# Altium schematic symbol library kmilo17pet-dsPIC33F.SchLib: 775 symbols (part 23 of 44)
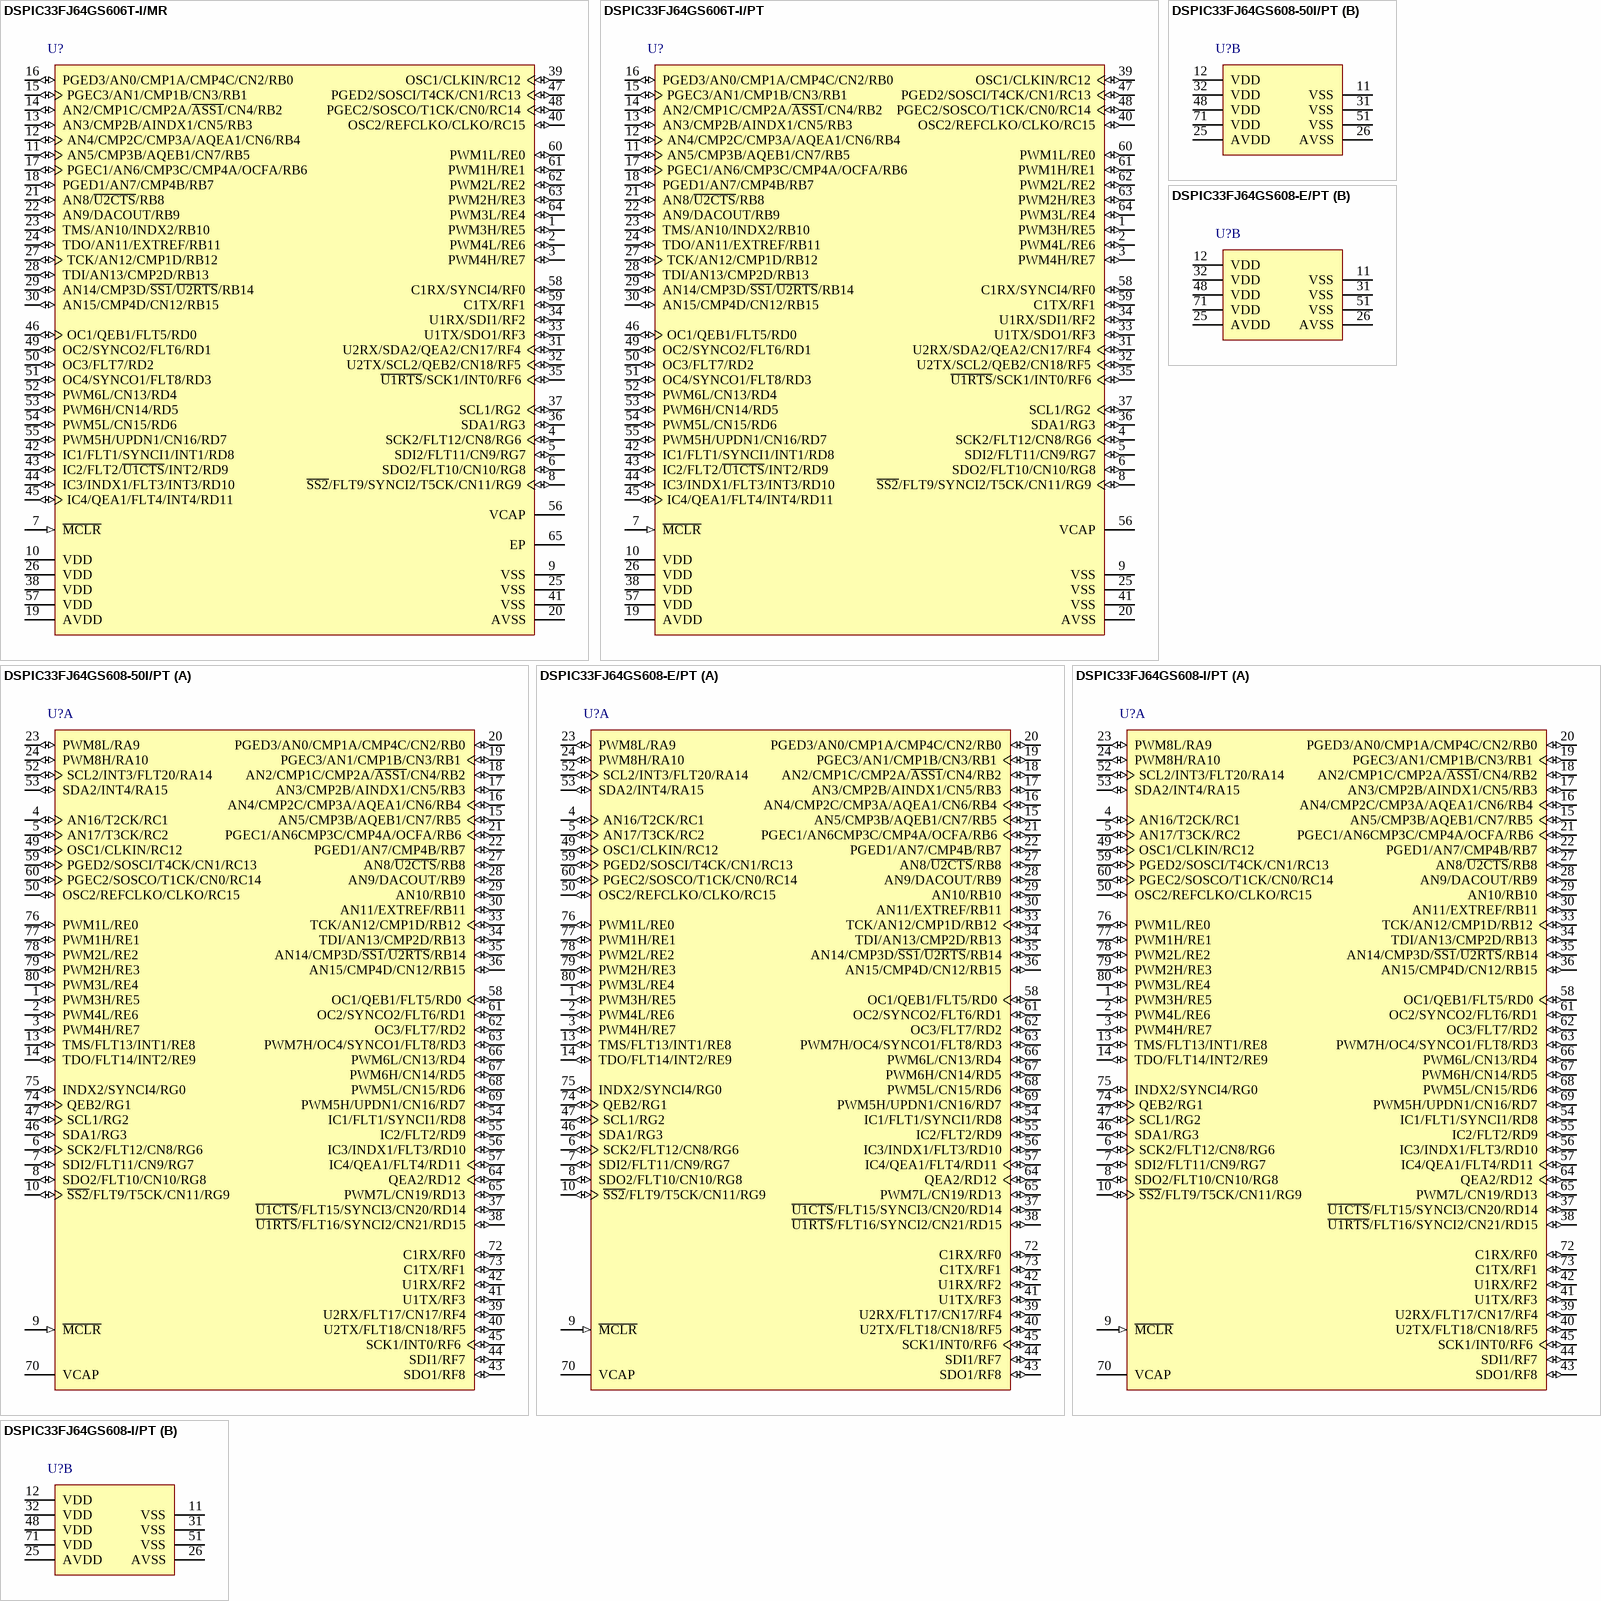
[diagram p180: symbols DSPIC33FJ64GS606T-I/MR to DSPIC33FJ64GS608-I/PT]

## DSPIC33FJ64GS606T-I/MR
designator U?
16-Bit Digital Signal Controller with High-Speed PWM, ADC and Comparators, 50 MIPS, 58 I/O, GPIO, -40 to 85 degC, 64-pin QFN (MR64), Tape and Reel; Manufacturer: Microchip; PartNumber: DSPIC33FJ64GS606T-I/MR; DatasheetVersion: Rev. E; PackageVersion: C04-149C; PackageReference: QFN-MR64; PackageDescription: 64-Lead Plastic Quad Flat, 9 x 9 mm Body, 0.5 mm Pitch; Supplier 1: Digi-Key; Supplier Part Number 1: DSPIC33FJ64GS606T-I/MR-ND; Supplier 2: Mouser; Supplier Part Number 2: 579-33FJ64GS606TI/MR; Mounting Technology: Surface Mount; ComponentLink1Description: Manufacturer URL; ComponentLink1URL: http://www.microchip.com; ComponentLink2Description: Datasheet; ComponentLink2URL: http://ww1.microchip.com/downloads/en/DeviceDoc/70591e.pdf; ComponentLink3Description: Package Specification; ComponentLink3URL: http://www.microchip.com/stellent/groups/techpub_sg/documents/packagingspec/en012702.pdf; ComponentLink4Description: Product URL; ComponentLink4URL: http://www.microchip.com/dsPIC33FJ64GS606
footprint MCHP-QFN-MR64-7275X7275TP_N (QFN, 64-Leads, Body 9x9mm, Pitch 0.5mm, Thermal Pad 7.275x7.275mm, IPC Medium Density)
footprint MCHP-QFN-MR64-7275X7275TP_L (QFN, 64-Leads, Body 9x9mm, Pitch 0.5mm, Thermal Pad 7.275x7.275mm, IPC High Density)
footprint MCHP-QFN-MR64-7275X7275TP_M (QFN, 64-Leads, Body 9x9mm, Pitch 0.5mm, Thermal Pad 7.275x7.275mm, IPC Low Density)
pins: 1 PWM3H/RE5 (io), 2 PWM4L/RE6 (io), 3 PWM4H/RE7 (io), 4 SCK2/FLT12/CN8/RG6 (io), 5 SDI2/FLT11/CN9/RG7 (io), 6 SDO2/FLT10/CN10/RG8 (io), 7 ~{MCLR} (in) "Master Clear (Reset) input. This pin is an active-low Reset to the device.", 8 ~{SS2}/FLT9/SYNCI2/T5CK/CN11/RG9 (io), 9 VSS (power) "Ground reference for logic and I/O pins.", 10 VDD (power) "Positive supply for peripheral logic and I/O pins.", 11 AN5/CMP3B/AQEB1/CN7/RB5 (io), 12 AN4/CMP2C/CMP3A/AQEA1/CN6/RB4 (io), 13 AN3/CMP2B/AINDX1/CN5/RB3 (io), 14 AN2/CMP1C/CMP2A/~{ASS1}/CN4/RB2 (io), 15 PGEC3/AN1/CMP1B/CN3/RB1 (io), 16 PGED3/AN0/CMP1A/CMP4C/CN2/RB0 (io), 17 PGEC1/AN6/CMP3C/CMP4A/OCFA/RB6 (io), 18 PGED1/AN7/CMP4B/RB7 (io), 19 AVDD (power) "Positive supply for analog modules. This pin must be connected at all times.", 20 AVSS (power) "Ground reference for analog modules.", 21 AN8/~{U2CTS}/RB8 (io), 22 AN9/DACOUT/RB9 (io), 23 TMS/AN10/INDX2/RB10 (io), 24 TDO/AN11/EXTREF/RB11 (io), 25 VSS (power) "Ground reference for logic and I/O pins.", 26 VDD (power) "Positive supply for peripheral logic and I/O pins.", 27 TCK/AN12/CMP1D/RB12 (io), 28 TDI/AN13/CMP2D/RB13 (io), 29 AN14/CMP3D/~{SS1}/~{U2RTS}/RB14 (io), 30 AN15/CMP4D/CN12/RB15 (io), 31 U2RX/SDA2/QEA2/CN17/RF4 (io), 32 U2TX/SCL2/QEB2/CN18/RF5 (io), 33 U1TX/SDO1/RF3 (io), 34 U1RX/SDI1/RF2 (io), 35 ~{U1RTS}/SCK1/INT0/RF6 (io), 36 SDA1/RG3 (io), 37 SCL1/RG2 (io), 38 VDD (power) "Positive supply for peripheral logic and I/O pins.", 39 OSC1/CLKIN/RC12 (io), 40 OSC2/REFCLKO/CLKO/RC15 (io), 41 VSS (power) "Ground reference for logic and I/O pins.", 42 IC1/FLT1/SYNCI1/INT1/RD8 (io), 43 IC2/FLT2/~{U1CTS}/INT2/RD9 (io), 44 IC3/INDX1/FLT3/INT3/RD10 (io), 45 IC4/QEA1/FLT4/INT4/RD11 (io), 46 OC1/QEB1/FLT5/RD0 (io), 47 PGED2/SOSCI/T4CK/CN1/RC13 (io), 48 PGEC2/SOSCO/T1CK/CN0/RC14 (io), 49 OC2/SYNCO2/FLT6/RD1 (io), 50 OC3/FLT7/RD2 (io), 51 OC4/SYNCO1/FLT8/RD3 (io), 52 PWM6L/CN13/RD4 (io), 53 PWM6H/CN14/RD5 (io), 54 PWM5L/CN15/RD6 (io), 55 PWM5H/UPDN1/CN16/RD7 (io), 56 VCAP "CPU logic filter capacitor connection.", 57 VDD (power) "Positive supply for peripheral logic and I/O pins.", 58 C1RX/SYNCI4/RF0 (io), 59 C1TX/RF1 (io), 60 PWM1L/RE0 (io), 61 PWM1H/RE1 (io), 62 PWM2L/RE2 (io), 63 PWM2H/RE3 (io), 64 PWM3L/RE4 (io), 65 EP (power)

## DSPIC33FJ64GS606T-I/PT
designator U?
16-Bit Digital Signal Controller with High-Speed PWM, ADC and Comparators, 50 MIPS, 58 I/O, GPIO, -40 to 85 degC, 64-pin TQFP (PT64), Tape and Reel; Manufacturer: Microchip; PartNumber: DSPIC33FJ64GS606T-I/PT; DatasheetVersion: Rev. E; PackageVersion: C04-085B; PackageReference: TQFP-PT64; PackageDescription: 64-Lead Plastic Thin Quad FlatPack, 10 x 10 mm Body, 0.5 mm Pitch; Supplier 1: Digi-Key; Supplier Part Number 1: DSPIC33FJ64GS606T-I/PT-ND; Supplier 2: Mouser; Supplier Part Number 2: 579-33FJ64GS606TI/PT; Mounting Technology: Surface Mount; ComponentLink1Description: Manufacturer URL; ComponentLink1URL: http://www.microchip.com; ComponentLink2Description: Datasheet; ComponentLink2URL: http://ww1.microchip.com/downloads/en/DeviceDoc/70591e.pdf; ComponentLink3Description: Package Specification; ComponentLink3URL: http://www.microchip.com/stellent/groups/techpub_sg/documents/packagingspec/en012702.pdf; ComponentLink4Description: Product URL; ComponentLink4URL: http://www.microchip.com/dsPIC33FJ64GS606
footprint MCHP-TQFP-PT64_N (TQFP, 64-Leads, Body 10x10mm, Pitch 0.5mm, IPC Medium Density)
footprint MCHP-TQFP-PT64_L (TQFP, 64-Leads, Body 10x10mm, Pitch 0.5mm, IPC High Density)
footprint MCHP-TQFP-PT64_M (TQFP, 64-Leads, Body 10x10mm, Pitch 0.5mm, IPC Low Density)
pins: 1 PWM3H/RE5 (io), 2 PWM4L/RE6 (io), 3 PWM4H/RE7 (io), 4 SCK2/FLT12/CN8/RG6 (io), 5 SDI2/FLT11/CN9/RG7 (io), 6 SDO2/FLT10/CN10/RG8 (io), 7 ~{MCLR} (in) "Master Clear (Reset) input. This pin is an active-low Reset to the device.", 8 ~{SS2}/FLT9/SYNCI2/T5CK/CN11/RG9 (io), 9 VSS (power) "Ground reference for logic and I/O pins.", 10 VDD (power) "Positive supply for peripheral logic and I/O pins.", 11 AN5/CMP3B/AQEB1/CN7/RB5 (io), 12 AN4/CMP2C/CMP3A/AQEA1/CN6/RB4 (io), 13 AN3/CMP2B/AINDX1/CN5/RB3 (io), 14 AN2/CMP1C/CMP2A/~{ASS1}/CN4/RB2 (io), 15 PGEC3/AN1/CMP1B/CN3/RB1 (io), 16 PGED3/AN0/CMP1A/CMP4C/CN2/RB0 (io), 17 PGEC1/AN6/CMP3C/CMP4A/OCFA/RB6 (io), 18 PGED1/AN7/CMP4B/RB7 (io), 19 AVDD (power) "Positive supply for analog modules. This pin must be connected at all times.", 20 AVSS (power) "Ground reference for analog modules.", 21 AN8/~{U2CTS}/RB8 (io), 22 AN9/DACOUT/RB9 (io), 23 TMS/AN10/INDX2/RB10 (io), 24 TDO/AN11/EXTREF/RB11 (io), 25 VSS (power) "Ground reference for logic and I/O pins.", 26 VDD (power) "Positive supply for peripheral logic and I/O pins.", 27 TCK/AN12/CMP1D/RB12 (io), 28 TDI/AN13/CMP2D/RB13 (io), 29 AN14/CMP3D/~{SS1}/~{U2RTS}/RB14 (io), 30 AN15/CMP4D/CN12/RB15 (io), 31 U2RX/SDA2/QEA2/CN17/RF4 (io), 32 U2TX/SCL2/QEB2/CN18/RF5 (io), 33 U1TX/SDO1/RF3 (io), 34 U1RX/SDI1/RF2 (io), 35 ~{U1RTS}/SCK1/INT0/RF6 (io), 36 SDA1/RG3 (io), 37 SCL1/RG2 (io), 38 VDD (power) "Positive supply for peripheral logic and I/O pins.", 39 OSC1/CLKIN/RC12 (io), 40 OSC2/REFCLKO/CLKO/RC15 (io), 41 VSS (power) "Ground reference for logic and I/O pins.", 42 IC1/FLT1/SYNCI1/INT1/RD8 (io), 43 IC2/FLT2/~{U1CTS}/INT2/RD9 (io), 44 IC3/INDX1/FLT3/INT3/RD10 (io), 45 IC4/QEA1/FLT4/INT4/RD11 (io), 46 OC1/QEB1/FLT5/RD0 (io), 47 PGED2/SOSCI/T4CK/CN1/RC13 (io), 48 PGEC2/SOSCO/T1CK/CN0/RC14 (io), 49 OC2/SYNCO2/FLT6/RD1 (io), 50 OC3/FLT7/RD2 (io), 51 OC4/SYNCO1/FLT8/RD3 (io), 52 PWM6L/CN13/RD4 (io), 53 PWM6H/CN14/RD5 (io), 54 PWM5L/CN15/RD6 (io), 55 PWM5H/UPDN1/CN16/RD7 (io), 56 VCAP "CPU logic filter capacitor connection.", 57 VDD (power) "Positive supply for peripheral logic and I/O pins.", 58 C1RX/SYNCI4/RF0 (io), 59 C1TX/RF1 (io), 60 PWM1L/RE0 (io), 61 PWM1H/RE1 (io), 62 PWM2L/RE2 (io), 63 PWM2H/RE3 (io), 64 PWM3L/RE4 (io)

## DSPIC33FJ64GS608-50I/PT
designator U?
16-Bit Digital Signal Controller with High-Speed PWM, ADC and Comparators, 50 MIPS, 74 I/O, GPIO, -40 to 85 degC, 80-pin TQFP (PT80), Tray; Manufacturer: Microchip; PartNumber: DSPIC33FJ64GS608-50I/PT; DatasheetVersion: Rev. E; PackageVersion: C04-092B; PackageReference: TQFP-PT80; PackageDescription: 80-Lead Plastic Thin Quad FlatPack, 12 x 12 mm Body, 0.5 mm Pitch; Supplier 1: Digi-Key; Supplier Part Number 1: DSPIC33FJ64GS608-50I/PT-ND; Supplier 2: Newark; Supplier Part Number 2: 72T9474; Supplier 3: Mouser; Supplier Part Number 3: 579-33F64GS60850IPT; Mounting Technology: Surface Mount; ComponentLink1Description: Manufacturer URL; ComponentLink1URL: http://www.microchip.com; ComponentLink2Description: Datasheet; ComponentLink2URL: http://ww1.microchip.com/downloads/en/DeviceDoc/70591e.pdf; ComponentLink3Description: Package Specification; ComponentLink3URL: http://www.microchip.com/stellent/groups/techpub_sg/documents/packagingspec/en012702.pdf; ComponentLink4Description: Product URL; ComponentLink4URL: http://www.microchip.com/dsPIC33FJ64GS608
footprint MCHP-TQFP-PT80_N (QFN, 80-Leads, Body 12x12mm, Pitch 0.5mm, IPC Medium Density)
footprint MCHP-TQFP-PT80_L (QFN, 80-Leads, Body 12x12mm, Pitch 0.5mm, IPC High Density)
footprint MCHP-TQFP-PT80_M (QFN, 80-Leads, Body 12x12mm, Pitch 0.5mm, IPC Low Density)
part A pins: 1 PWM3H/RE5 (io), 2 PWM4L/RE6 (io), 3 PWM4H/RE7 (io), 4 AN16/T2CK/RC1 (io), 5 AN17/T3CK/RC2 (io), 6 SCK2/FLT12/CN8/RG6 (io), 7 SDI2/FLT11/CN9/RG7 (io), 8 SDO2/FLT10/CN10/RG8 (io), 9 ~{MCLR} (in) "Master Clear (Reset) input. This pin is an active-low Reset to the device.", 10 ~{SS2}/FLT9/T5CK/CN11/RG9 (io), 13 TMS/FLT13/INT1/RE8 (io), 14 TDO/FLT14/INT2/RE9 (io), 15 AN5/CMP3B/AQEB1/CN7/RB5 (io), 16 AN4/CMP2C/CMP3A/AQEA1/CN6/RB4 (io), 17 AN3/CMP2B/AINDX1/CN5/RB3 (io), 18 AN2/CMP1C/CMP2A/~{ASS1}/CN4/RB2 (io), 19 PGEC3/AN1/CMP1B/CN3/RB1 (io), 20 PGED3/AN0/CMP1A/CMP4C/CN2/RB0 (io), 21 PGEC1/AN6CMP3C/CMP4A/OCFA/RB6 (io), 22 PGED1/AN7/CMP4B/RB7 (io), 23 PWM8L/RA9 (io), 24 PWM8H/RA10 (io), 27 AN8/~{U2CTS}/RB8 (io), 28 AN9/DACOUT/RB9 (io), 29 AN10/RB10 (io), 30 AN11/EXTREF/RB11 (io), 33 TCK/AN12/CMP1D/RB12 (io), 34 TDI/AN13/CMP2D/RB13 (io), 35 AN14/CMP3D/~{SS1}/~{U2RTS}/RB14 (io), 36 AN15/CMP4D/CN12/RB15 (io), 37 ~{U1CTS}/FLT15/SYNCI3/CN20/RD14 (io), 38 ~{U1RTS}/FLT16/SYNCI2/CN21/RD15 (io), 39 U2RX/FLT17/CN17/RF4 (io), 40 U2TX/FLT18/CN18/RF5 (io), 41 U1TX/RF3 (io), 42 U1RX/RF2 (io), 43 SDO1/RF8 (io), 44 SDI1/RF7 (io), 45 SCK1/INT0/RF6 (io), 46 SDA1/RG3 (io), 47 SCL1/RG2 (io), 49 OSC1/CLKIN/RC12 (io), 50 OSC2/REFCLKO/CLKO/RC15 (io), 52 SCL2/INT3/FLT20/RA14 (io), 53 SDA2/INT4/RA15 (io), 54 IC1/FLT1/SYNCI1/RD8 (io), 55 IC2/FLT2/RD9 (io), 56 IC3/INDX1/FLT3/RD10 (io), 57 IC4/QEA1/FLT4/RD11 (io), 58 OC1/QEB1/FLT5/RD0 (io), 59 PGED2/SOSCI/T4CK/CN1/RC13 (io), 60 PGEC2/SOSCO/T1CK/CN0/RC14 (io), 61 OC2/SYNCO2/FLT6/RD1 (io), 62 OC3/FLT7/RD2 (io), 63 PWM7H/OC4/SYNCO1/FLT8/RD3 (io), 64 QEA2/RD12 (io), 65 PWM7L/CN19/RD13 (io), 66 PWM6L/CN13/RD4 (io), 67 PWM6H/CN14/RD5 (io), 68 PWM5L/CN15/RD6 (io), 69 PWM5H/UPDN1/CN16/RD7 (io), 70 VCAP "CPU logic filter capacitor connection.", 72 C1RX/RF0 (io), 73 C1TX/RF1 (io), 74 QEB2/RG1 (io), 75 INDX2/SYNCI4/RG0 (io), 76 PWM1L/RE0 (io), 77 PWM1H/RE1 (io), 78 PWM2L/RE2 (io), 79 PWM2H/RE3 (io), 80 PWM3L/RE4 (io)
part B pins: 11 VSS (power) "Ground reference for logic and I/O pins.", 12 VDD (power) "Positive supply for peripheral logic and I/O pins.", 25 AVDD (power) "Positive supply for analog modules. This pin must be connected at all times.", 26 AVSS (power) "Ground reference for analog modules.", 31 VSS (power) "Ground reference for logic and I/O pins.", 32 VDD (power) "Positive supply for peripheral logic and I/O pins.", 48 VDD (power) "Positive supply for peripheral logic and I/O pins.", 51 VSS (power) "Ground reference for logic and I/O pins.", 71 VDD (power) "Positive supply for peripheral logic and I/O pins."

## DSPIC33FJ64GS608-E/PT
designator U?
16-Bit Digital Signal Controller with High-Speed PWM, ADC and Comparators, 50 MIPS, 74 I/O, GPIO, -40 to 125 degC, 80-pin TQFP (PT80), Tray; Manufacturer: Microchip; PartNumber: DSPIC33FJ64GS608-E/PT; DatasheetVersion: Rev. E; PackageVersion: C04-092B; PackageReference: TQFP-PT80; PackageDescription: 80-Lead Plastic Thin Quad FlatPack, 12 x 12 mm Body, 0.5 mm Pitch; Supplier 1: Digi-Key; Supplier Part Number 1: DSPIC33FJ64GS608-E/PT-ND; Supplier 2: Newark; Supplier Part Number 2: 08R1560; Supplier 3: Mouser; Supplier Part Number 3: 579-33FJ64GS608-E/PT; Mounting Technology: Surface Mount; ComponentLink1Description: Manufacturer URL; ComponentLink1URL: http://www.microchip.com; ComponentLink2Description: Datasheet; ComponentLink2URL: http://ww1.microchip.com/downloads/en/DeviceDoc/70591e.pdf; ComponentLink3Description: Package Specification; ComponentLink3URL: http://www.microchip.com/stellent/groups/techpub_sg/documents/packagingspec/en012702.pdf; ComponentLink4Description: Product URL; ComponentLink4URL: http://www.microchip.com/dsPIC33FJ64GS608
footprint MCHP-TQFP-PT80_N (QFN, 80-Leads, Body 12x12mm, Pitch 0.5mm, IPC Medium Density)
footprint MCHP-TQFP-PT80_L (QFN, 80-Leads, Body 12x12mm, Pitch 0.5mm, IPC High Density)
footprint MCHP-TQFP-PT80_M (QFN, 80-Leads, Body 12x12mm, Pitch 0.5mm, IPC Low Density)
part A pins: 1 PWM3H/RE5 (io), 2 PWM4L/RE6 (io), 3 PWM4H/RE7 (io), 4 AN16/T2CK/RC1 (io), 5 AN17/T3CK/RC2 (io), 6 SCK2/FLT12/CN8/RG6 (io), 7 SDI2/FLT11/CN9/RG7 (io), 8 SDO2/FLT10/CN10/RG8 (io), 9 ~{MCLR} (in) "Master Clear (Reset) input. This pin is an active-low Reset to the device.", 10 ~{SS2}/FLT9/T5CK/CN11/RG9 (io), 13 TMS/FLT13/INT1/RE8 (io), 14 TDO/FLT14/INT2/RE9 (io), 15 AN5/CMP3B/AQEB1/CN7/RB5 (io), 16 AN4/CMP2C/CMP3A/AQEA1/CN6/RB4 (io), 17 AN3/CMP2B/AINDX1/CN5/RB3 (io), 18 AN2/CMP1C/CMP2A/~{ASS1}/CN4/RB2 (io), 19 PGEC3/AN1/CMP1B/CN3/RB1 (io), 20 PGED3/AN0/CMP1A/CMP4C/CN2/RB0 (io), 21 PGEC1/AN6CMP3C/CMP4A/OCFA/RB6 (io), 22 PGED1/AN7/CMP4B/RB7 (io), 23 PWM8L/RA9 (io), 24 PWM8H/RA10 (io), 27 AN8/~{U2CTS}/RB8 (io), 28 AN9/DACOUT/RB9 (io), 29 AN10/RB10 (io), 30 AN11/EXTREF/RB11 (io), 33 TCK/AN12/CMP1D/RB12 (io), 34 TDI/AN13/CMP2D/RB13 (io), 35 AN14/CMP3D/~{SS1}/~{U2RTS}/RB14 (io), 36 AN15/CMP4D/CN12/RB15 (io), 37 ~{U1CTS}/FLT15/SYNCI3/CN20/RD14 (io), 38 ~{U1RTS}/FLT16/SYNCI2/CN21/RD15 (io), 39 U2RX/FLT17/CN17/RF4 (io), 40 U2TX/FLT18/CN18/RF5 (io), 41 U1TX/RF3 (io), 42 U1RX/RF2 (io), 43 SDO1/RF8 (io), 44 SDI1/RF7 (io), 45 SCK1/INT0/RF6 (io), 46 SDA1/RG3 (io), 47 SCL1/RG2 (io), 49 OSC1/CLKIN/RC12 (io), 50 OSC2/REFCLKO/CLKO/RC15 (io), 52 SCL2/INT3/FLT20/RA14 (io), 53 SDA2/INT4/RA15 (io), 54 IC1/FLT1/SYNCI1/RD8 (io), 55 IC2/FLT2/RD9 (io), 56 IC3/INDX1/FLT3/RD10 (io), 57 IC4/QEA1/FLT4/RD11 (io), 58 OC1/QEB1/FLT5/RD0 (io), 59 PGED2/SOSCI/T4CK/CN1/RC13 (io), 60 PGEC2/SOSCO/T1CK/CN0/RC14 (io), 61 OC2/SYNCO2/FLT6/RD1 (io), 62 OC3/FLT7/RD2 (io), 63 PWM7H/OC4/SYNCO1/FLT8/RD3 (io), 64 QEA2/RD12 (io), 65 PWM7L/CN19/RD13 (io), 66 PWM6L/CN13/RD4 (io), 67 PWM6H/CN14/RD5 (io), 68 PWM5L/CN15/RD6 (io), 69 PWM5H/UPDN1/CN16/RD7 (io), 70 VCAP "CPU logic filter capacitor connection.", 72 C1RX/RF0 (io), 73 C1TX/RF1 (io), 74 QEB2/RG1 (io), 75 INDX2/SYNCI4/RG0 (io), 76 PWM1L/RE0 (io), 77 PWM1H/RE1 (io), 78 PWM2L/RE2 (io), 79 PWM2H/RE3 (io), 80 PWM3L/RE4 (io)
part B pins: 11 VSS (power) "Ground reference for logic and I/O pins.", 12 VDD (power) "Positive supply for peripheral logic and I/O pins.", 25 AVDD (power) "Positive supply for analog modules. This pin must be connected at all times.", 26 AVSS (power) "Ground reference for analog modules.", 31 VSS (power) "Ground reference for logic and I/O pins.", 32 VDD (power) "Positive supply for peripheral logic and I/O pins.", 48 VDD (power) "Positive supply for peripheral logic and I/O pins.", 51 VSS (power) "Ground reference for logic and I/O pins.", 71 VDD (power) "Positive supply for peripheral logic and I/O pins."

## DSPIC33FJ64GS608-I/PT
designator U?
16-Bit Digital Signal Controller with High-Speed PWM, ADC and Comparators, 50 MIPS, 74 I/O, GPIO, -40 to 85 degC, 80-pin TQFP (PT80), Tray; Manufacturer: Microchip; PartNumber: DSPIC33FJ64GS608-I/PT; DatasheetVersion: Rev. E; PackageVersion: C04-092B; PackageReference: TQFP-PT80; PackageDescription: 80-Lead Plastic Thin Quad FlatPack, 12 x 12 mm Body, 0.5 mm Pitch; Supplier 1: Digi-Key; Supplier Part Number 1: DSPIC33FJ64GS608-I/PT-ND; Supplier 2: Farnell; Supplier Part Number 2: 2082233; Supplier 3: Newark; Supplier Part Number 3: 83T6849; Supplier 4: Newark; Supplier Part Number 4: 08R1561; Supplier 5: Mouser; Supplier Part Number 5: 579-33FJ64GS608-I/PT; Mounting Technology: Surface Mount; ComponentLink1Description: Manufacturer URL; ComponentLink1URL: http://www.microchip.com; ComponentLink2Description: Datasheet; ComponentLink2URL: http://ww1.microchip.com/downloads/en/DeviceDoc/70591e.pdf; ComponentLink3Description: Package Specification; ComponentLink3URL: http://www.microchip.com/stellent/groups/techpub_sg/documents/packagingspec/en012702.pdf; ComponentLink4Description: Product URL; ComponentLink4URL: http://www.microchip.com/dsPIC33FJ64GS608
footprint MCHP-TQFP-PT80_N (QFN, 80-Leads, Body 12x12mm, Pitch 0.5mm, IPC Medium Density)
footprint MCHP-TQFP-PT80_L (QFN, 80-Leads, Body 12x12mm, Pitch 0.5mm, IPC High Density)
footprint MCHP-TQFP-PT80_M (QFN, 80-Leads, Body 12x12mm, Pitch 0.5mm, IPC Low Density)
part A pins: 1 PWM3H/RE5 (io), 2 PWM4L/RE6 (io), 3 PWM4H/RE7 (io), 4 AN16/T2CK/RC1 (io), 5 AN17/T3CK/RC2 (io), 6 SCK2/FLT12/CN8/RG6 (io), 7 SDI2/FLT11/CN9/RG7 (io), 8 SDO2/FLT10/CN10/RG8 (io), 9 ~{MCLR} (in) "Master Clear (Reset) input. This pin is an active-low Reset to the device.", 10 ~{SS2}/FLT9/T5CK/CN11/RG9 (io), 13 TMS/FLT13/INT1/RE8 (io), 14 TDO/FLT14/INT2/RE9 (io), 15 AN5/CMP3B/AQEB1/CN7/RB5 (io), 16 AN4/CMP2C/CMP3A/AQEA1/CN6/RB4 (io), 17 AN3/CMP2B/AINDX1/CN5/RB3 (io), 18 AN2/CMP1C/CMP2A/~{ASS1}/CN4/RB2 (io), 19 PGEC3/AN1/CMP1B/CN3/RB1 (io), 20 PGED3/AN0/CMP1A/CMP4C/CN2/RB0 (io), 21 PGEC1/AN6CMP3C/CMP4A/OCFA/RB6 (io), 22 PGED1/AN7/CMP4B/RB7 (io), 23 PWM8L/RA9 (io), 24 PWM8H/RA10 (io), 27 AN8/~{U2CTS}/RB8 (io), 28 AN9/DACOUT/RB9 (io), 29 AN10/RB10 (io), 30 AN11/EXTREF/RB11 (io), 33 TCK/AN12/CMP1D/RB12 (io), 34 TDI/AN13/CMP2D/RB13 (io), 35 AN14/CMP3D/~{SS1}/~{U2RTS}/RB14 (io), 36 AN15/CMP4D/CN12/RB15 (io), 37 ~{U1CTS}/FLT15/SYNCI3/CN20/RD14 (io), 38 ~{U1RTS}/FLT16/SYNCI2/CN21/RD15 (io), 39 U2RX/FLT17/CN17/RF4 (io), 40 U2TX/FLT18/CN18/RF5 (io), 41 U1TX/RF3 (io), 42 U1RX/RF2 (io), 43 SDO1/RF8 (io), 44 SDI1/RF7 (io), 45 SCK1/INT0/RF6 (io), 46 SDA1/RG3 (io), 47 SCL1/RG2 (io), 49 OSC1/CLKIN/RC12 (io), 50 OSC2/REFCLKO/CLKO/RC15 (io), 52 SCL2/INT3/FLT20/RA14 (io), 53 SDA2/INT4/RA15 (io), 54 IC1/FLT1/SYNCI1/RD8 (io), 55 IC2/FLT2/RD9 (io), 56 IC3/INDX1/FLT3/RD10 (io), 57 IC4/QEA1/FLT4/RD11 (io), 58 OC1/QEB1/FLT5/RD0 (io), 59 PGED2/SOSCI/T4CK/CN1/RC13 (io), 60 PGEC2/SOSCO/T1CK/CN0/RC14 (io), 61 OC2/SYNCO2/FLT6/RD1 (io), 62 OC3/FLT7/RD2 (io), 63 PWM7H/OC4/SYNCO1/FLT8/RD3 (io), 64 QEA2/RD12 (io), 65 PWM7L/CN19/RD13 (io), 66 PWM6L/CN13/RD4 (io), 67 PWM6H/CN14/RD5 (io), 68 PWM5L/CN15/RD6 (io), 69 PWM5H/UPDN1/CN16/RD7 (io), 70 VCAP "CPU logic filter capacitor connection.", 72 C1RX/RF0 (io), 73 C1TX/RF1 (io), 74 QEB2/RG1 (io), 75 INDX2/SYNCI4/RG0 (io), 76 PWM1L/RE0 (io), 77 PWM1H/RE1 (io), 78 PWM2L/RE2 (io), 79 PWM2H/RE3 (io), 80 PWM3L/RE4 (io)
part B pins: 11 VSS (power) "Ground reference for logic and I/O pins.", 12 VDD (power) "Positive supply for peripheral logic and I/O pins.", 25 AVDD (power) "Positive supply for analog modules. This pin must be connected at all times.", 26 AVSS (power) "Ground reference for analog modules.", 31 VSS (power) "Ground reference for logic and I/O pins.", 32 VDD (power) "Positive supply for peripheral logic and I/O pins.", 48 VDD (power) "Positive supply for peripheral logic and I/O pins.", 51 VSS (power) "Ground reference for logic and I/O pins.", 71 VDD (power) "Positive supply for peripheral logic and I/O pins."

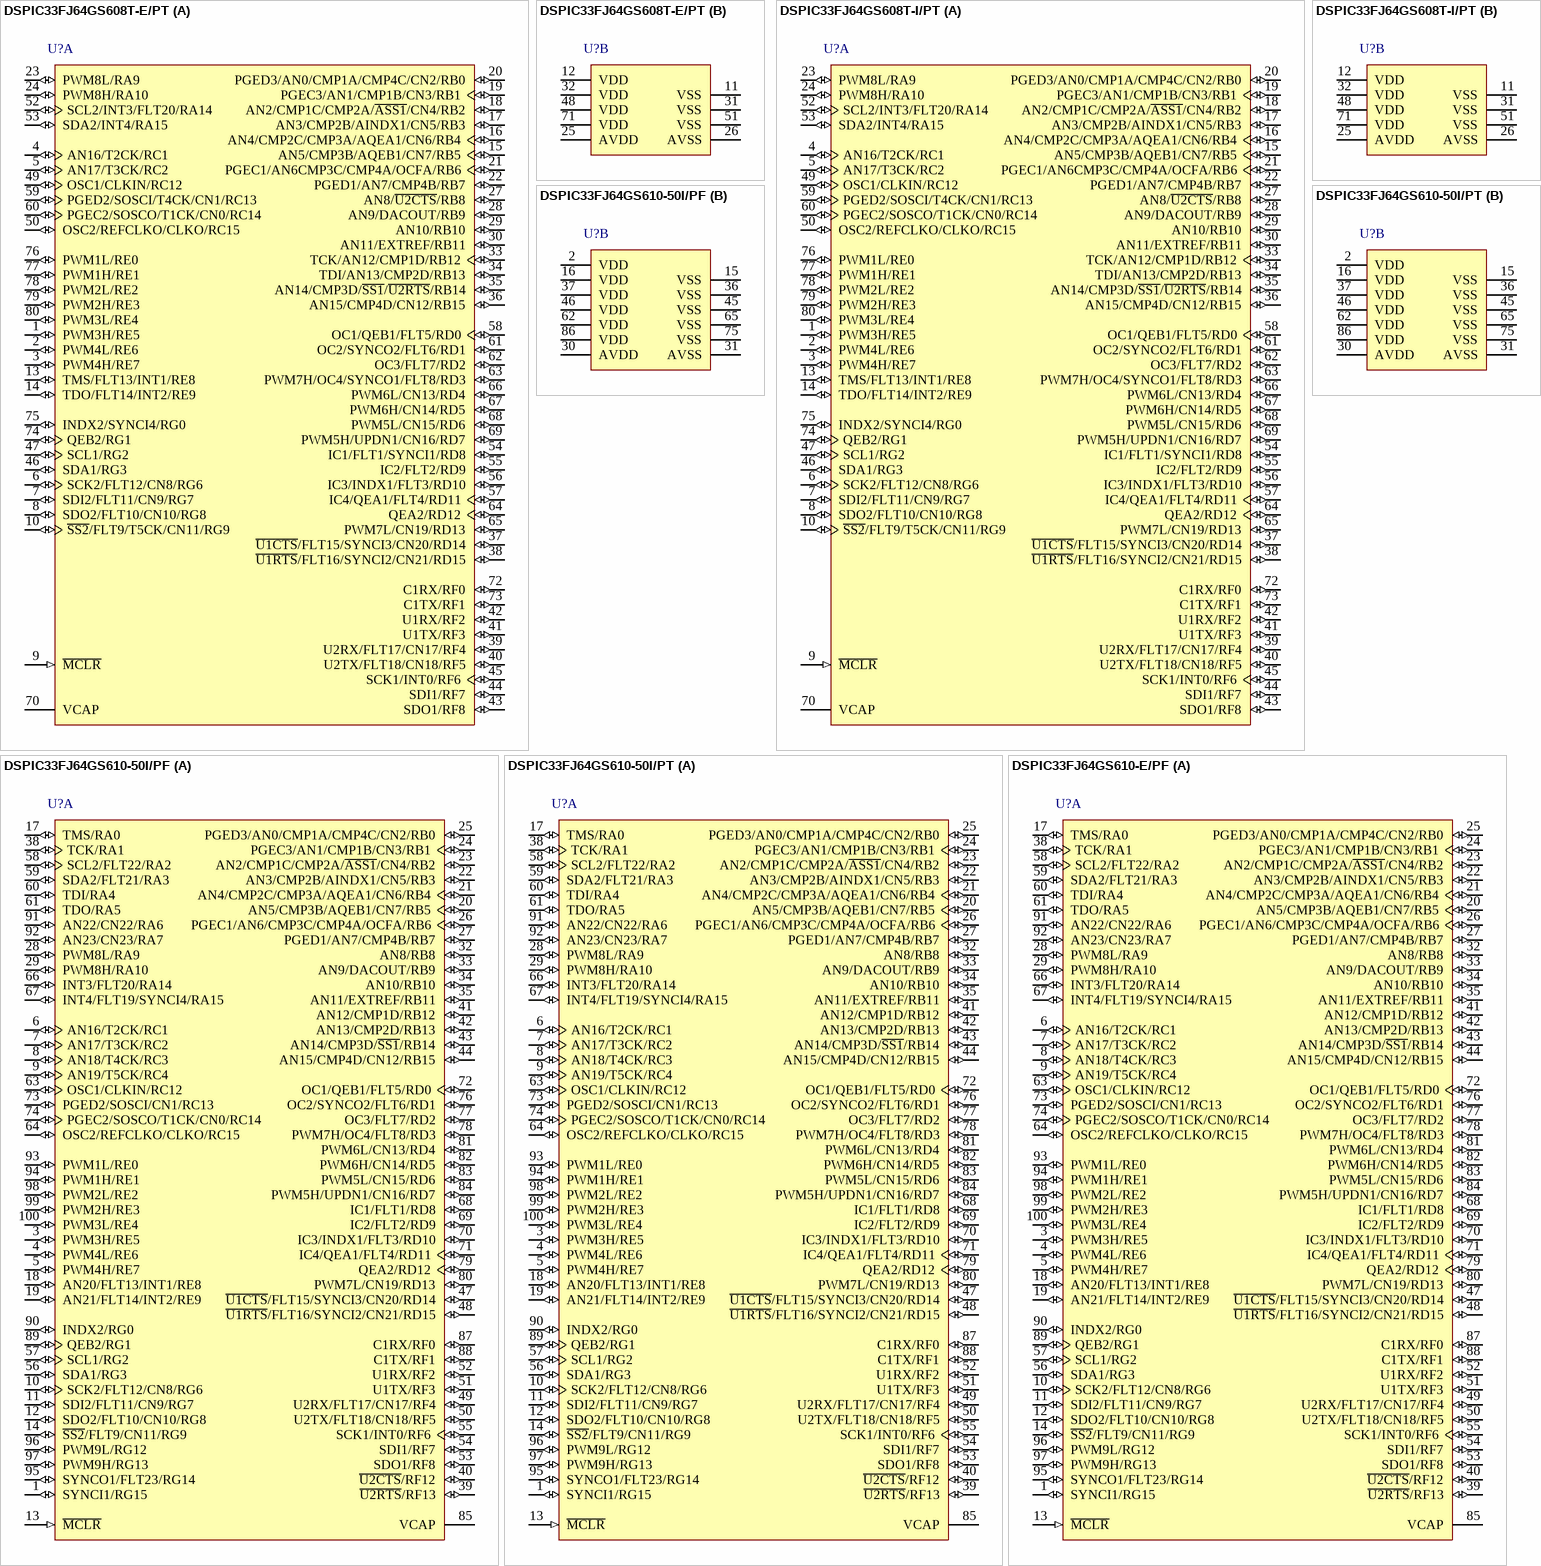
[diagram p74: symbols DSPIC33FJ64GS608T-E/PT to DSPIC33FJ64GS610-E/PF]

## DSPIC33FJ64GS608T-E/PT
designator U?
16-Bit Digital Signal Controller with High-Speed PWM, ADC and Comparators, 50 MIPS, 74 I/O, GPIO, -40 to 125 degC, 80-pin TQFP (PT80), Tape and Reel; Manufacturer: Microchip; PartNumber: DSPIC33FJ64GS608T-E/PT; DatasheetVersion: Rev. E; PackageVersion: C04-092B; PackageReference: TQFP-PT80; PackageDescription: 80-Lead Plastic Thin Quad FlatPack, 12 x 12 mm Body, 0.5 mm Pitch; Mounting Technology: Surface Mount; ComponentLink1Description: Manufacturer URL; ComponentLink1URL: http://www.microchip.com; ComponentLink2Description: Datasheet; ComponentLink2URL: http://ww1.microchip.com/downloads/en/DeviceDoc/70591e.pdf; ComponentLink3Description: Package Specification; ComponentLink3URL: http://www.microchip.com/stellent/groups/techpub_sg/documents/packagingspec/en012702.pdf; ComponentLink4Description: Product URL; ComponentLink4URL: http://www.microchip.com/dsPIC33FJ64GS608
footprint MCHP-TQFP-PT80_N (QFN, 80-Leads, Body 12x12mm, Pitch 0.5mm, IPC Medium Density)
footprint MCHP-TQFP-PT80_L (QFN, 80-Leads, Body 12x12mm, Pitch 0.5mm, IPC High Density)
footprint MCHP-TQFP-PT80_M (QFN, 80-Leads, Body 12x12mm, Pitch 0.5mm, IPC Low Density)
part A pins: 1 PWM3H/RE5 (io), 2 PWM4L/RE6 (io), 3 PWM4H/RE7 (io), 4 AN16/T2CK/RC1 (io), 5 AN17/T3CK/RC2 (io), 6 SCK2/FLT12/CN8/RG6 (io), 7 SDI2/FLT11/CN9/RG7 (io), 8 SDO2/FLT10/CN10/RG8 (io), 9 ~{MCLR} (in) "Master Clear (Reset) input. This pin is an active-low Reset to the device.", 10 ~{SS2}/FLT9/T5CK/CN11/RG9 (io), 13 TMS/FLT13/INT1/RE8 (io), 14 TDO/FLT14/INT2/RE9 (io), 15 AN5/CMP3B/AQEB1/CN7/RB5 (io), 16 AN4/CMP2C/CMP3A/AQEA1/CN6/RB4 (io), 17 AN3/CMP2B/AINDX1/CN5/RB3 (io), 18 AN2/CMP1C/CMP2A/~{ASS1}/CN4/RB2 (io), 19 PGEC3/AN1/CMP1B/CN3/RB1 (io), 20 PGED3/AN0/CMP1A/CMP4C/CN2/RB0 (io), 21 PGEC1/AN6CMP3C/CMP4A/OCFA/RB6 (io), 22 PGED1/AN7/CMP4B/RB7 (io), 23 PWM8L/RA9 (io), 24 PWM8H/RA10 (io), 27 AN8/~{U2CTS}/RB8 (io), 28 AN9/DACOUT/RB9 (io), 29 AN10/RB10 (io), 30 AN11/EXTREF/RB11 (io), 33 TCK/AN12/CMP1D/RB12 (io), 34 TDI/AN13/CMP2D/RB13 (io), 35 AN14/CMP3D/~{SS1}/~{U2RTS}/RB14 (io), 36 AN15/CMP4D/CN12/RB15 (io), 37 ~{U1CTS}/FLT15/SYNCI3/CN20/RD14 (io), 38 ~{U1RTS}/FLT16/SYNCI2/CN21/RD15 (io), 39 U2RX/FLT17/CN17/RF4 (io), 40 U2TX/FLT18/CN18/RF5 (io), 41 U1TX/RF3 (io), 42 U1RX/RF2 (io), 43 SDO1/RF8 (io), 44 SDI1/RF7 (io), 45 SCK1/INT0/RF6 (io), 46 SDA1/RG3 (io), 47 SCL1/RG2 (io), 49 OSC1/CLKIN/RC12 (io), 50 OSC2/REFCLKO/CLKO/RC15 (io), 52 SCL2/INT3/FLT20/RA14 (io), 53 SDA2/INT4/RA15 (io), 54 IC1/FLT1/SYNCI1/RD8 (io), 55 IC2/FLT2/RD9 (io), 56 IC3/INDX1/FLT3/RD10 (io), 57 IC4/QEA1/FLT4/RD11 (io), 58 OC1/QEB1/FLT5/RD0 (io), 59 PGED2/SOSCI/T4CK/CN1/RC13 (io), 60 PGEC2/SOSCO/T1CK/CN0/RC14 (io), 61 OC2/SYNCO2/FLT6/RD1 (io), 62 OC3/FLT7/RD2 (io), 63 PWM7H/OC4/SYNCO1/FLT8/RD3 (io), 64 QEA2/RD12 (io), 65 PWM7L/CN19/RD13 (io), 66 PWM6L/CN13/RD4 (io), 67 PWM6H/CN14/RD5 (io), 68 PWM5L/CN15/RD6 (io), 69 PWM5H/UPDN1/CN16/RD7 (io), 70 VCAP "CPU logic filter capacitor connection.", 72 C1RX/RF0 (io), 73 C1TX/RF1 (io), 74 QEB2/RG1 (io), 75 INDX2/SYNCI4/RG0 (io), 76 PWM1L/RE0 (io), 77 PWM1H/RE1 (io), 78 PWM2L/RE2 (io), 79 PWM2H/RE3 (io), 80 PWM3L/RE4 (io)
part B pins: 11 VSS (power) "Ground reference for logic and I/O pins.", 12 VDD (power) "Positive supply for peripheral logic and I/O pins.", 25 AVDD (power) "Positive supply for analog modules. This pin must be connected at all times.", 26 AVSS (power) "Ground reference for analog modules.", 31 VSS (power) "Ground reference for logic and I/O pins.", 32 VDD (power) "Positive supply for peripheral logic and I/O pins.", 48 VDD (power) "Positive supply for peripheral logic and I/O pins.", 51 VSS (power) "Ground reference for logic and I/O pins.", 71 VDD (power) "Positive supply for peripheral logic and I/O pins."

## DSPIC33FJ64GS608T-I/PT
designator U?
16-Bit Digital Signal Controller with High-Speed PWM, ADC and Comparators, 50 MIPS, 74 I/O, GPIO, -40 to 85 degC, 80-pin TQFP (PT80), Tape and Reel; Manufacturer: Microchip; PartNumber: DSPIC33FJ64GS608T-I/PT; DatasheetVersion: Rev. E; PackageVersion: C04-092B; PackageReference: TQFP-PT80; PackageDescription: 80-Lead Plastic Thin Quad FlatPack, 12 x 12 mm Body, 0.5 mm Pitch; Supplier 1: Digi-Key; Supplier Part Number 1: DSPIC33FJ64GS608T-I/PT-ND; Supplier 2: Mouser; Supplier Part Number 2: 579-33FJ64GS608TI/PT; Mounting Technology: Surface Mount; ComponentLink1Description: Manufacturer URL; ComponentLink1URL: http://www.microchip.com; ComponentLink2Description: Datasheet; ComponentLink2URL: http://ww1.microchip.com/downloads/en/DeviceDoc/70591e.pdf; ComponentLink3Description: Package Specification; ComponentLink3URL: http://www.microchip.com/stellent/groups/techpub_sg/documents/packagingspec/en012702.pdf; ComponentLink4Description: Product URL; ComponentLink4URL: http://www.microchip.com/dsPIC33FJ64GS608
footprint MCHP-TQFP-PT80_N (QFN, 80-Leads, Body 12x12mm, Pitch 0.5mm, IPC Medium Density)
footprint MCHP-TQFP-PT80_L (QFN, 80-Leads, Body 12x12mm, Pitch 0.5mm, IPC High Density)
footprint MCHP-TQFP-PT80_M (QFN, 80-Leads, Body 12x12mm, Pitch 0.5mm, IPC Low Density)
part A pins: 1 PWM3H/RE5 (io), 2 PWM4L/RE6 (io), 3 PWM4H/RE7 (io), 4 AN16/T2CK/RC1 (io), 5 AN17/T3CK/RC2 (io), 6 SCK2/FLT12/CN8/RG6 (io), 7 SDI2/FLT11/CN9/RG7 (io), 8 SDO2/FLT10/CN10/RG8 (io), 9 ~{MCLR} (in) "Master Clear (Reset) input. This pin is an active-low Reset to the device.", 10 ~{SS2}/FLT9/T5CK/CN11/RG9 (io), 13 TMS/FLT13/INT1/RE8 (io), 14 TDO/FLT14/INT2/RE9 (io), 15 AN5/CMP3B/AQEB1/CN7/RB5 (io), 16 AN4/CMP2C/CMP3A/AQEA1/CN6/RB4 (io), 17 AN3/CMP2B/AINDX1/CN5/RB3 (io), 18 AN2/CMP1C/CMP2A/~{ASS1}/CN4/RB2 (io), 19 PGEC3/AN1/CMP1B/CN3/RB1 (io), 20 PGED3/AN0/CMP1A/CMP4C/CN2/RB0 (io), 21 PGEC1/AN6CMP3C/CMP4A/OCFA/RB6 (io), 22 PGED1/AN7/CMP4B/RB7 (io), 23 PWM8L/RA9 (io), 24 PWM8H/RA10 (io), 27 AN8/~{U2CTS}/RB8 (io), 28 AN9/DACOUT/RB9 (io), 29 AN10/RB10 (io), 30 AN11/EXTREF/RB11 (io), 33 TCK/AN12/CMP1D/RB12 (io), 34 TDI/AN13/CMP2D/RB13 (io), 35 AN14/CMP3D/~{SS1}/~{U2RTS}/RB14 (io), 36 AN15/CMP4D/CN12/RB15 (io), 37 ~{U1CTS}/FLT15/SYNCI3/CN20/RD14 (io), 38 ~{U1RTS}/FLT16/SYNCI2/CN21/RD15 (io), 39 U2RX/FLT17/CN17/RF4 (io), 40 U2TX/FLT18/CN18/RF5 (io), 41 U1TX/RF3 (io), 42 U1RX/RF2 (io), 43 SDO1/RF8 (io), 44 SDI1/RF7 (io), 45 SCK1/INT0/RF6 (io), 46 SDA1/RG3 (io), 47 SCL1/RG2 (io), 49 OSC1/CLKIN/RC12 (io), 50 OSC2/REFCLKO/CLKO/RC15 (io), 52 SCL2/INT3/FLT20/RA14 (io), 53 SDA2/INT4/RA15 (io), 54 IC1/FLT1/SYNCI1/RD8 (io), 55 IC2/FLT2/RD9 (io), 56 IC3/INDX1/FLT3/RD10 (io), 57 IC4/QEA1/FLT4/RD11 (io), 58 OC1/QEB1/FLT5/RD0 (io), 59 PGED2/SOSCI/T4CK/CN1/RC13 (io), 60 PGEC2/SOSCO/T1CK/CN0/RC14 (io), 61 OC2/SYNCO2/FLT6/RD1 (io), 62 OC3/FLT7/RD2 (io), 63 PWM7H/OC4/SYNCO1/FLT8/RD3 (io), 64 QEA2/RD12 (io), 65 PWM7L/CN19/RD13 (io), 66 PWM6L/CN13/RD4 (io), 67 PWM6H/CN14/RD5 (io), 68 PWM5L/CN15/RD6 (io), 69 PWM5H/UPDN1/CN16/RD7 (io), 70 VCAP "CPU logic filter capacitor connection.", 72 C1RX/RF0 (io), 73 C1TX/RF1 (io), 74 QEB2/RG1 (io), 75 INDX2/SYNCI4/RG0 (io), 76 PWM1L/RE0 (io), 77 PWM1H/RE1 (io), 78 PWM2L/RE2 (io), 79 PWM2H/RE3 (io), 80 PWM3L/RE4 (io)
part B pins: 11 VSS (power) "Ground reference for logic and I/O pins.", 12 VDD (power) "Positive supply for peripheral logic and I/O pins.", 25 AVDD (power) "Positive supply for analog modules. This pin must be connected at all times.", 26 AVSS (power) "Ground reference for analog modules.", 31 VSS (power) "Ground reference for logic and I/O pins.", 32 VDD (power) "Positive supply for peripheral logic and I/O pins.", 48 VDD (power) "Positive supply for peripheral logic and I/O pins.", 51 VSS (power) "Ground reference for logic and I/O pins.", 71 VDD (power) "Positive supply for peripheral logic and I/O pins."

## DSPIC33FJ64GS610-50I/PF
designator U?
16-Bit Digital Signal Controller with High-Speed PWM, ADC and Comparators, 50 MIPS, 85 I/O, GPIO, -40C to 85 degC, 100-pin TQFP (PF100), Tray; Manufacturer: Microchip; PartNumber: DSPIC33FJ64GS610-50I/PF; DatasheetVersion: Rev. E; PackageVersion: C04-110B; PackageReference: TQFP-PF100; PackageDescription: 100-Lead Thin Plastic Quad Flat Pack, 14 x 14 mm Body, 0.5 mm Pitch; Supplier 1: Digi-Key; Supplier Part Number 1: DSPIC33FJ64GS610-50I/PF-ND; Supplier 2: Mouser; Supplier Part Number 2: 579-33F64GS61050IPF; Mounting Technology: Surface Mount; ComponentLink1Description: Manufacturer URL; ComponentLink1URL: http://www.microchip.com; ComponentLink2Description: Datasheet; ComponentLink2URL: http://ww1.microchip.com/downloads/en/DeviceDoc/70591e.pdf; ComponentLink3Description: Package Specification; ComponentLink3URL: http://www.microchip.com/stellent/groups/techpub_sg/documents/packagingspec/en012702.pdf; ComponentLink4Description: Product URL; ComponentLink4URL: http://www.microchip.com/dsPIC33FJ64GS610
footprint MCHP-TQFP-PF100_N (QFP, 100-Leads, Body 14x14mm, Pitch 0.5mm, IPC Medium Density)
footprint MCHP-TQFP-PF100_L (QFP, 100-Leads, Body 14x14mm, Pitch 0.5mm, IPC High Density)
footprint MCHP-TQFP-PF100_M (QFP, 100-Leads, Body 14x14mm, Pitch 0.5mm, IPC Low Density)
part A pins: 1 SYNCI1/RG15 (io), 3 PWM3H/RE5 (io), 4 PWM4L/RE6 (io), 5 PWM4H/RE7 (io), 6 AN16/T2CK/RC1 (io), 7 AN17/T3CK/RC2 (io), 8 AN18/T4CK/RC3 (io), 9 AN19/T5CK/RC4 (io), 10 SCK2/FLT12/CN8/RG6 (io), 11 SDI2/FLT11/CN9/RG7 (io), 12 SDO2/FLT10/CN10/RG8 (io), 13 ~{MCLR} (in) "Master Clear (Reset) input. This pin is an active-low Reset to the device.", 14 ~{SS2}/FLT9/CN11/RG9 (io), 17 TMS/RA0 (io), 18 AN20/FLT13/INT1/RE8 (io), 19 AN21/FLT14/INT2/RE9 (io), 20 AN5/CMP3B/AQEB1/CN7/RB5 (io), 21 AN4/CMP2C/CMP3A/AQEA1/CN6/RB4 (io), 22 AN3/CMP2B/AINDX1/CN5/RB3 (io), 23 AN2/CMP1C/CMP2A/~{ASS1}/CN4/RB2 (io), 24 PGEC3/AN1/CMP1B/CN3/RB1 (io), 25 PGED3/AN0/CMP1A/CMP4C/CN2/RB0 (io), 26 PGEC1/AN6/CMP3C/CMP4A/OCFA/RB6 (io), 27 PGED1/AN7/CMP4B/RB7 (io), 28 PWM8L/RA9 (io), 29 PWM8H/RA10 (io), 32 AN8/RB8 (io), 33 AN9/DACOUT/RB9 (io), 34 AN10/RB10 (io), 35 AN11/EXTREF/RB11 (io), 38 TCK/RA1 (io), 39 ~{U2RTS}/RF13 (io), 40 ~{U2CTS}/RF12 (io), 41 AN12/CMP1D/RB12 (io), 42 AN13/CMP2D/RB13 (io), 43 AN14/CMP3D/~{SS1}/RB14 (io), 44 AN15/CMP4D/CN12/RB15 (io), 47 ~{U1CTS}/FLT15/SYNCI3/CN20/RD14 (io), 48 ~{U1RTS}/FLT16/SYNCI2/CN21/RD15 (io), 49 U2RX/FLT17/CN17/RF4 (io), 50 U2TX/FLT18/CN18/RF5 (io), 51 U1TX/RF3 (io), 52 U1RX/RF2 (io), 53 SDO1/RF8 (io), 54 SDI1/RF7 (io), 55 SCK1/INT0/RF6 (io), 56 SDA1/RG3 (io), 57 SCL1/RG2 (io), 58 SCL2/FLT22/RA2 (io), 59 SDA2/FLT21/RA3 (io), 60 TDI/RA4 (io), 61 TDO/RA5 (io), 63 OSC1/CLKIN/RC12 (io), 64 OSC2/REFCLKO/CLKO/RC15 (io), 66 INT3/FLT20/RA14 (io), 67 INT4/FLT19/SYNCI4/RA15 (io), 68 IC1/FLT1/RD8 (io), 69 IC2/FLT2/RD9 (io), 70 IC3/INDX1/FLT3/RD10 (io), 71 IC4/QEA1/FLT4/RD11 (io), 72 OC1/QEB1/FLT5/RD0 (io), 73 PGED2/SOSCI/CN1/RC13 (io), 74 PGEC2/SOSCO/T1CK/CN0/RC14 (io), 76 OC2/SYNCO2/FLT6/RD1 (io), 77 OC3/FLT7/RD2 (io), 78 PWM7H/OC4/FLT8/RD3 (io), 79 QEA2/RD12 (io), 80 PWM7L/CN19/RD13 (io), 81 PWM6L/CN13/RD4 (io), 82 PWM6H/CN14/RD5 (io), 83 PWM5L/CN15/RD6 (io), 84 PWM5H/UPDN1/CN16/RD7 (io), 85 VCAP "CPU logic filter capacitor connection.", 87 C1RX/RF0 (io), 88 C1TX/RF1 (io), 89 QEB2/RG1 (io), 90 INDX2/RG0 (io), 91 AN22/CN22/RA6 (io), 92 AN23/CN23/RA7 (io), 93 PWM1L/RE0 (io), 94 PWM1H/RE1 (io), 95 SYNCO1/FLT23/RG14 (io), 96 PWM9L/RG12 (io), 97 PWM9H/RG13 (io), 98 PWM2L/RE2 (io), 99 PWM2H/RE3 (io), 100 PWM3L/RE4 (io)
part B pins: 2 VDD (power) "Positive supply for peripheral logic and I/O pins.", 15 VSS (power) "Ground reference for logic and I/O pins.", 16 VDD (power) "Positive supply for peripheral logic and I/O pins.", 30 AVDD (power) "Positive supply for analog modules. This pin must be connected at all times.", 31 AVSS (power) "Ground reference for analog modules.", 36 VSS (power) "Ground reference for logic and I/O pins.", 37 VDD (power) "Positive supply for peripheral logic and I/O pins.", 45 VSS (power) "Ground reference for logic and I/O pins.", 46 VDD (power) "Positive supply for peripheral logic and I/O pins.", 62 VDD (power) "Positive supply for peripheral logic and I/O pins.", 65 VSS (power) "Ground reference for logic and I/O pins.", 75 VSS (power) "Ground reference for logic and I/O pins.", 86 VDD (power) "Positive supply for peripheral logic and I/O pins."

## DSPIC33FJ64GS610-50I/PT
designator U?
16-Bit Digital Signal Controller with High-Speed PWM, ADC and Comparators, 50 MIPS, 85 I/O, GPIO, -40 to 85 degC, 100-pin TQFP (PT100), Tray; Manufacturer: Microchip; PartNumber: DSPIC33FJ64GS610-50I/PT; DatasheetVersion: Rev. E; PackageVersion: C04-100B; PackageReference: TQFP-PT100; PackageDescription: 100-Lead Plastic Thin Quad Flatpack, 12 x 12 mm Body, 0.4 mm Pitch; Supplier 1: Digi-Key; Supplier Part Number 1: DSPIC33FJ64GS610-50I/PT-ND; Supplier 2: Newark; Supplier Part Number 2: 72T9477; Supplier 3: Mouser; Supplier Part Number 3: 579-33F64GS61050IPT; Mounting Technology: Surface Mount; ComponentLink1Description: Manufacturer URL; ComponentLink1URL: http://www.microchip.com; ComponentLink2Description: Datasheet; ComponentLink2URL: http://ww1.microchip.com/downloads/en/DeviceDoc/70591e.pdf; ComponentLink3Description: Package Specification; ComponentLink3URL: http://www.microchip.com/stellent/groups/techpub_sg/documents/packagingspec/en012702.pdf; ComponentLink4Description: Product URL; ComponentLink4URL: http://www.microchip.com/dsPIC33FJ64GS610
footprint MCHP-TQFP-PT100_N (QFP, 100-Leads, Body 12x12mm, Pitch 0.4mm, IPC Medium Density)
footprint MCHP-TQFP-PT100_L (QFP, 100-Leads, Body 12x12mm, Pitch 0.4mm, IPC High Density)
footprint MCHP-TQFP-PT100_M (TQFP, 100-Leads, Body 12x12mm, Pitch 0.4mm, IPC Low Density)
part A pins: 1 SYNCI1/RG15 (io), 3 PWM3H/RE5 (io), 4 PWM4L/RE6 (io), 5 PWM4H/RE7 (io), 6 AN16/T2CK/RC1 (io), 7 AN17/T3CK/RC2 (io), 8 AN18/T4CK/RC3 (io), 9 AN19/T5CK/RC4 (io), 10 SCK2/FLT12/CN8/RG6 (io), 11 SDI2/FLT11/CN9/RG7 (io), 12 SDO2/FLT10/CN10/RG8 (io), 13 ~{MCLR} (in) "Master Clear (Reset) input. This pin is an active-low Reset to the device.", 14 ~{SS2}/FLT9/CN11/RG9 (io), 17 TMS/RA0 (io), 18 AN20/FLT13/INT1/RE8 (io), 19 AN21/FLT14/INT2/RE9 (io), 20 AN5/CMP3B/AQEB1/CN7/RB5 (io), 21 AN4/CMP2C/CMP3A/AQEA1/CN6/RB4 (io), 22 AN3/CMP2B/AINDX1/CN5/RB3 (io), 23 AN2/CMP1C/CMP2A/~{ASS1}/CN4/RB2 (io), 24 PGEC3/AN1/CMP1B/CN3/RB1 (io), 25 PGED3/AN0/CMP1A/CMP4C/CN2/RB0 (io), 26 PGEC1/AN6/CMP3C/CMP4A/OCFA/RB6 (io), 27 PGED1/AN7/CMP4B/RB7 (io), 28 PWM8L/RA9 (io), 29 PWM8H/RA10 (io), 32 AN8/RB8 (io), 33 AN9/DACOUT/RB9 (io), 34 AN10/RB10 (io), 35 AN11/EXTREF/RB11 (io), 38 TCK/RA1 (io), 39 ~{U2RTS}/RF13 (io), 40 ~{U2CTS}/RF12 (io), 41 AN12/CMP1D/RB12 (io), 42 AN13/CMP2D/RB13 (io), 43 AN14/CMP3D/~{SS1}/RB14 (io), 44 AN15/CMP4D/CN12/RB15 (io), 47 ~{U1CTS}/FLT15/SYNCI3/CN20/RD14 (io), 48 ~{U1RTS}/FLT16/SYNCI2/CN21/RD15 (io), 49 U2RX/FLT17/CN17/RF4 (io), 50 U2TX/FLT18/CN18/RF5 (io), 51 U1TX/RF3 (io), 52 U1RX/RF2 (io), 53 SDO1/RF8 (io), 54 SDI1/RF7 (io), 55 SCK1/INT0/RF6 (io), 56 SDA1/RG3 (io), 57 SCL1/RG2 (io), 58 SCL2/FLT22/RA2 (io), 59 SDA2/FLT21/RA3 (io), 60 TDI/RA4 (io), 61 TDO/RA5 (io), 63 OSC1/CLKIN/RC12 (io), 64 OSC2/REFCLKO/CLKO/RC15 (io), 66 INT3/FLT20/RA14 (io), 67 INT4/FLT19/SYNCI4/RA15 (io), 68 IC1/FLT1/RD8 (io), 69 IC2/FLT2/RD9 (io), 70 IC3/INDX1/FLT3/RD10 (io), 71 IC4/QEA1/FLT4/RD11 (io), 72 OC1/QEB1/FLT5/RD0 (io), 73 PGED2/SOSCI/CN1/RC13 (io), 74 PGEC2/SOSCO/T1CK/CN0/RC14 (io), 76 OC2/SYNCO2/FLT6/RD1 (io), 77 OC3/FLT7/RD2 (io), 78 PWM7H/OC4/FLT8/RD3 (io), 79 QEA2/RD12 (io), 80 PWM7L/CN19/RD13 (io), 81 PWM6L/CN13/RD4 (io), 82 PWM6H/CN14/RD5 (io), 83 PWM5L/CN15/RD6 (io), 84 PWM5H/UPDN1/CN16/RD7 (io), 85 VCAP "CPU logic filter capacitor connection.", 87 C1RX/RF0 (io), 88 C1TX/RF1 (io), 89 QEB2/RG1 (io), 90 INDX2/RG0 (io), 91 AN22/CN22/RA6 (io), 92 AN23/CN23/RA7 (io), 93 PWM1L/RE0 (io), 94 PWM1H/RE1 (io), 95 SYNCO1/FLT23/RG14 (io), 96 PWM9L/RG12 (io), 97 PWM9H/RG13 (io), 98 PWM2L/RE2 (io), 99 PWM2H/RE3 (io), 100 PWM3L/RE4 (io)
part B pins: 2 VDD (power) "Positive supply for peripheral logic and I/O pins.", 15 VSS (power) "Ground reference for logic and I/O pins.", 16 VDD (power) "Positive supply for peripheral logic and I/O pins.", 30 AVDD (power) "Positive supply for analog modules. This pin must be connected at all times.", 31 AVSS (power) "Ground reference for analog modules.", 36 VSS (power) "Ground reference for logic and I/O pins.", 37 VDD (power) "Positive supply for peripheral logic and I/O pins.", 45 VSS (power) "Ground reference for logic and I/O pins.", 46 VDD (power) "Positive supply for peripheral logic and I/O pins.", 62 VDD (power) "Positive supply for peripheral logic and I/O pins.", 65 VSS (power) "Ground reference for logic and I/O pins.", 75 VSS (power) "Ground reference for logic and I/O pins.", 86 VDD (power) "Positive supply for peripheral logic and I/O pins."

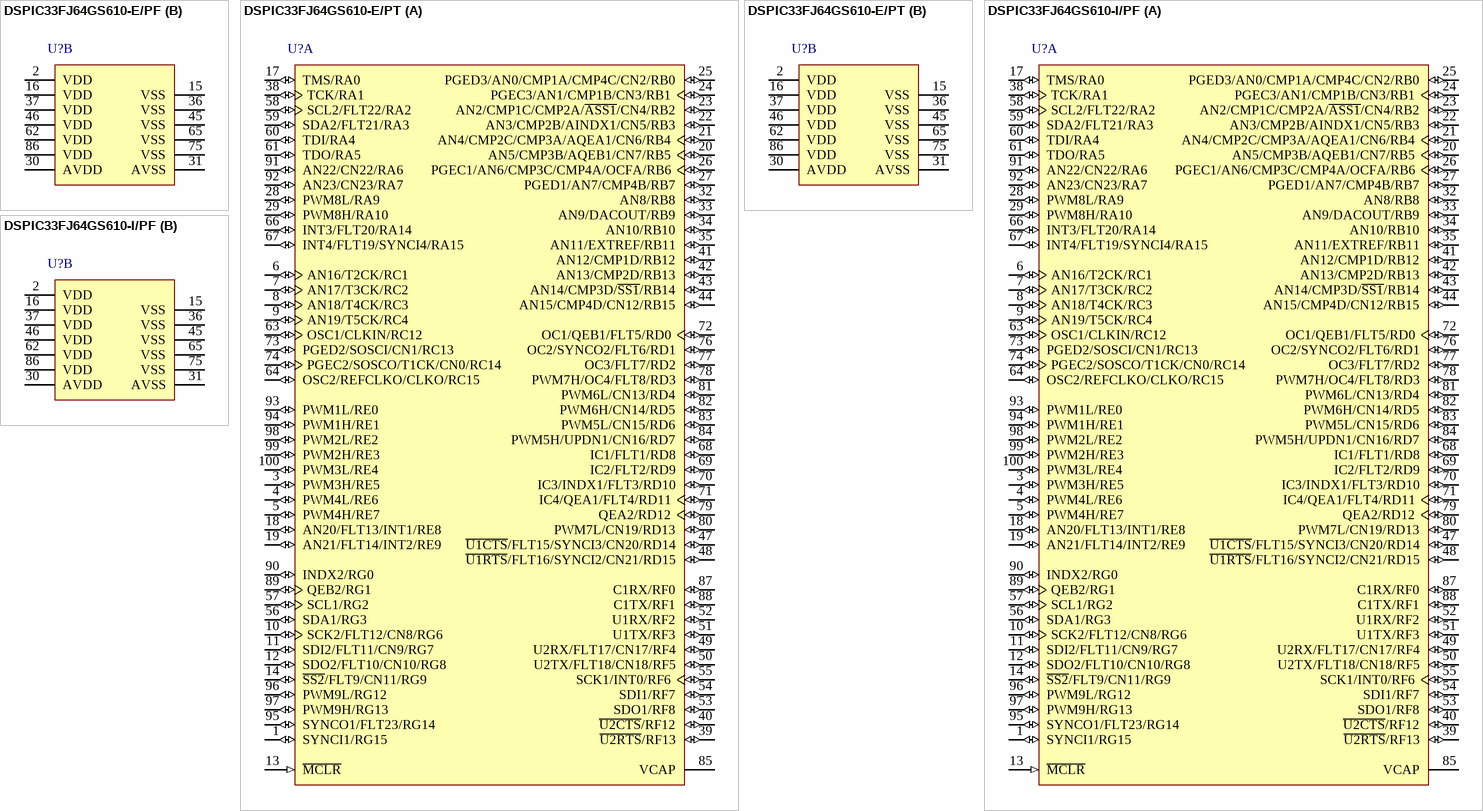
[diagram p75: symbols DSPIC33FJ64GS610-E/PF to DSPIC33FJ64GS610-I/PF]

## DSPIC33FJ64GS610-E/PF
designator U?
16-Bit Digital Signal Controller with High-Speed PWM, ADC and Comparators, 50 MIPS, 85 I/O, GPIO, -40 to 125 degC, 100-pin TQFP (PF100), Tray; Manufacturer: Microchip; PartNumber: DSPIC33FJ64GS610-E/PF; DatasheetVersion: Rev. E; PackageVersion: C04-110B; PackageReference: TQFP-PF100; PackageDescription: 100-Lead Thin Plastic Quad Flat Pack, 14 x 14 mm Body, 0.5 mm Pitch; Supplier 1: Digi-Key; Supplier Part Number 1: DSPIC33FJ64GS610-E/PF-ND; Supplier 2: Mouser; Supplier Part Number 2: 579-33FJ64GS610-E/PF; Mounting Technology: Surface Mount; ComponentLink1Description: Manufacturer URL; ComponentLink1URL: http://www.microchip.com; ComponentLink2Description: Datasheet; ComponentLink2URL: http://ww1.microchip.com/downloads/en/DeviceDoc/70591e.pdf; ComponentLink3Description: Package Specification; ComponentLink3URL: http://www.microchip.com/stellent/groups/techpub_sg/documents/packagingspec/en012702.pdf; ComponentLink4Description: Product URL; ComponentLink4URL: http://www.microchip.com/dsPIC33FJ64GS610
footprint MCHP-TQFP-PF100_N (QFP, 100-Leads, Body 14x14mm, Pitch 0.5mm, IPC Medium Density)
footprint MCHP-TQFP-PF100_L (QFP, 100-Leads, Body 14x14mm, Pitch 0.5mm, IPC High Density)
footprint MCHP-TQFP-PF100_M (QFP, 100-Leads, Body 14x14mm, Pitch 0.5mm, IPC Low Density)
part A pins: 1 SYNCI1/RG15 (io), 3 PWM3H/RE5 (io), 4 PWM4L/RE6 (io), 5 PWM4H/RE7 (io), 6 AN16/T2CK/RC1 (io), 7 AN17/T3CK/RC2 (io), 8 AN18/T4CK/RC3 (io), 9 AN19/T5CK/RC4 (io), 10 SCK2/FLT12/CN8/RG6 (io), 11 SDI2/FLT11/CN9/RG7 (io), 12 SDO2/FLT10/CN10/RG8 (io), 13 ~{MCLR} (in) "Master Clear (Reset) input. This pin is an active-low Reset to the device.", 14 ~{SS2}/FLT9/CN11/RG9 (io), 17 TMS/RA0 (io), 18 AN20/FLT13/INT1/RE8 (io), 19 AN21/FLT14/INT2/RE9 (io), 20 AN5/CMP3B/AQEB1/CN7/RB5 (io), 21 AN4/CMP2C/CMP3A/AQEA1/CN6/RB4 (io), 22 AN3/CMP2B/AINDX1/CN5/RB3 (io), 23 AN2/CMP1C/CMP2A/~{ASS1}/CN4/RB2 (io), 24 PGEC3/AN1/CMP1B/CN3/RB1 (io), 25 PGED3/AN0/CMP1A/CMP4C/CN2/RB0 (io), 26 PGEC1/AN6/CMP3C/CMP4A/OCFA/RB6 (io), 27 PGED1/AN7/CMP4B/RB7 (io), 28 PWM8L/RA9 (io), 29 PWM8H/RA10 (io), 32 AN8/RB8 (io), 33 AN9/DACOUT/RB9 (io), 34 AN10/RB10 (io), 35 AN11/EXTREF/RB11 (io), 38 TCK/RA1 (io), 39 ~{U2RTS}/RF13 (io), 40 ~{U2CTS}/RF12 (io), 41 AN12/CMP1D/RB12 (io), 42 AN13/CMP2D/RB13 (io), 43 AN14/CMP3D/~{SS1}/RB14 (io), 44 AN15/CMP4D/CN12/RB15 (io), 47 ~{U1CTS}/FLT15/SYNCI3/CN20/RD14 (io), 48 ~{U1RTS}/FLT16/SYNCI2/CN21/RD15 (io), 49 U2RX/FLT17/CN17/RF4 (io), 50 U2TX/FLT18/CN18/RF5 (io), 51 U1TX/RF3 (io), 52 U1RX/RF2 (io), 53 SDO1/RF8 (io), 54 SDI1/RF7 (io), 55 SCK1/INT0/RF6 (io), 56 SDA1/RG3 (io), 57 SCL1/RG2 (io), 58 SCL2/FLT22/RA2 (io), 59 SDA2/FLT21/RA3 (io), 60 TDI/RA4 (io), 61 TDO/RA5 (io), 63 OSC1/CLKIN/RC12 (io), 64 OSC2/REFCLKO/CLKO/RC15 (io), 66 INT3/FLT20/RA14 (io), 67 INT4/FLT19/SYNCI4/RA15 (io), 68 IC1/FLT1/RD8 (io), 69 IC2/FLT2/RD9 (io), 70 IC3/INDX1/FLT3/RD10 (io), 71 IC4/QEA1/FLT4/RD11 (io), 72 OC1/QEB1/FLT5/RD0 (io), 73 PGED2/SOSCI/CN1/RC13 (io), 74 PGEC2/SOSCO/T1CK/CN0/RC14 (io), 76 OC2/SYNCO2/FLT6/RD1 (io), 77 OC3/FLT7/RD2 (io), 78 PWM7H/OC4/FLT8/RD3 (io), 79 QEA2/RD12 (io), 80 PWM7L/CN19/RD13 (io), 81 PWM6L/CN13/RD4 (io), 82 PWM6H/CN14/RD5 (io), 83 PWM5L/CN15/RD6 (io), 84 PWM5H/UPDN1/CN16/RD7 (io), 85 VCAP "CPU logic filter capacitor connection.", 87 C1RX/RF0 (io), 88 C1TX/RF1 (io), 89 QEB2/RG1 (io), 90 INDX2/RG0 (io), 91 AN22/CN22/RA6 (io), 92 AN23/CN23/RA7 (io), 93 PWM1L/RE0 (io), 94 PWM1H/RE1 (io), 95 SYNCO1/FLT23/RG14 (io), 96 PWM9L/RG12 (io), 97 PWM9H/RG13 (io), 98 PWM2L/RE2 (io), 99 PWM2H/RE3 (io), 100 PWM3L/RE4 (io)
part B pins: 2 VDD (power) "Positive supply for peripheral logic and I/O pins.", 15 VSS (power) "Ground reference for logic and I/O pins.", 16 VDD (power) "Positive supply for peripheral logic and I/O pins.", 30 AVDD (power) "Positive supply for analog modules. This pin must be connected at all times.", 31 AVSS (power) "Ground reference for analog modules.", 36 VSS (power) "Ground reference for logic and I/O pins.", 37 VDD (power) "Positive supply for peripheral logic and I/O pins.", 45 VSS (power) "Ground reference for logic and I/O pins.", 46 VDD (power) "Positive supply for peripheral logic and I/O pins.", 62 VDD (power) "Positive supply for peripheral logic and I/O pins.", 65 VSS (power) "Ground reference for logic and I/O pins.", 75 VSS (power) "Ground reference for logic and I/O pins.", 86 VDD (power) "Positive supply for peripheral logic and I/O pins."

## DSPIC33FJ64GS610-E/PT
designator U?
16-Bit Digital Signal Controller with High-Speed PWM, ADC and Comparators, 50 MIPS, 85 I/O, GPIO, -40 to 125 degC, 100-pin TQFP (PT100), Tray; Manufacturer: Microchip; PartNumber: DSPIC33FJ64GS610-E/PT; DatasheetVersion: Rev. E; PackageVersion: C04-100B; PackageReference: TQFP-PT100; PackageDescription: 100-Lead Plastic Thin Quad Flatpack, 12 x 12 mm Body, 0.4 mm Pitch; Supplier 1: Digi-Key; Supplier Part Number 1: DSPIC33FJ64GS610-E/PT-ND; Supplier 2: Newark; Supplier Part Number 2: 08R1564; Supplier 3: Mouser; Supplier Part Number 3: 579-33FJ64GS610-E/PT; Mounting Technology: Surface Mount; ComponentLink1Description: Manufacturer URL; ComponentLink1URL: http://www.microchip.com; ComponentLink2Description: Datasheet; ComponentLink2URL: http://ww1.microchip.com/downloads/en/DeviceDoc/70591e.pdf; ComponentLink3Description: Package Specification; ComponentLink3URL: http://www.microchip.com/stellent/groups/techpub_sg/documents/packagingspec/en012702.pdf; ComponentLink4Description: Product URL; ComponentLink4URL: http://www.microchip.com/dsPIC33FJ64GS610
footprint MCHP-TQFP-PT100_N (QFP, 100-Leads, Body 12x12mm, Pitch 0.4mm, IPC Medium Density)
footprint MCHP-TQFP-PT100_L (QFP, 100-Leads, Body 12x12mm, Pitch 0.4mm, IPC High Density)
footprint MCHP-TQFP-PT100_M (TQFP, 100-Leads, Body 12x12mm, Pitch 0.4mm, IPC Low Density)
part A pins: 1 SYNCI1/RG15 (io), 3 PWM3H/RE5 (io), 4 PWM4L/RE6 (io), 5 PWM4H/RE7 (io), 6 AN16/T2CK/RC1 (io), 7 AN17/T3CK/RC2 (io), 8 AN18/T4CK/RC3 (io), 9 AN19/T5CK/RC4 (io), 10 SCK2/FLT12/CN8/RG6 (io), 11 SDI2/FLT11/CN9/RG7 (io), 12 SDO2/FLT10/CN10/RG8 (io), 13 ~{MCLR} (in) "Master Clear (Reset) input. This pin is an active-low Reset to the device.", 14 ~{SS2}/FLT9/CN11/RG9 (io), 17 TMS/RA0 (io), 18 AN20/FLT13/INT1/RE8 (io), 19 AN21/FLT14/INT2/RE9 (io), 20 AN5/CMP3B/AQEB1/CN7/RB5 (io), 21 AN4/CMP2C/CMP3A/AQEA1/CN6/RB4 (io), 22 AN3/CMP2B/AINDX1/CN5/RB3 (io), 23 AN2/CMP1C/CMP2A/~{ASS1}/CN4/RB2 (io), 24 PGEC3/AN1/CMP1B/CN3/RB1 (io), 25 PGED3/AN0/CMP1A/CMP4C/CN2/RB0 (io), 26 PGEC1/AN6/CMP3C/CMP4A/OCFA/RB6 (io), 27 PGED1/AN7/CMP4B/RB7 (io), 28 PWM8L/RA9 (io), 29 PWM8H/RA10 (io), 32 AN8/RB8 (io), 33 AN9/DACOUT/RB9 (io), 34 AN10/RB10 (io), 35 AN11/EXTREF/RB11 (io), 38 TCK/RA1 (io), 39 ~{U2RTS}/RF13 (io), 40 ~{U2CTS}/RF12 (io), 41 AN12/CMP1D/RB12 (io), 42 AN13/CMP2D/RB13 (io), 43 AN14/CMP3D/~{SS1}/RB14 (io), 44 AN15/CMP4D/CN12/RB15 (io), 47 ~{U1CTS}/FLT15/SYNCI3/CN20/RD14 (io), 48 ~{U1RTS}/FLT16/SYNCI2/CN21/RD15 (io), 49 U2RX/FLT17/CN17/RF4 (io), 50 U2TX/FLT18/CN18/RF5 (io), 51 U1TX/RF3 (io), 52 U1RX/RF2 (io), 53 SDO1/RF8 (io), 54 SDI1/RF7 (io), 55 SCK1/INT0/RF6 (io), 56 SDA1/RG3 (io), 57 SCL1/RG2 (io), 58 SCL2/FLT22/RA2 (io), 59 SDA2/FLT21/RA3 (io), 60 TDI/RA4 (io), 61 TDO/RA5 (io), 63 OSC1/CLKIN/RC12 (io), 64 OSC2/REFCLKO/CLKO/RC15 (io), 66 INT3/FLT20/RA14 (io), 67 INT4/FLT19/SYNCI4/RA15 (io), 68 IC1/FLT1/RD8 (io), 69 IC2/FLT2/RD9 (io), 70 IC3/INDX1/FLT3/RD10 (io), 71 IC4/QEA1/FLT4/RD11 (io), 72 OC1/QEB1/FLT5/RD0 (io), 73 PGED2/SOSCI/CN1/RC13 (io), 74 PGEC2/SOSCO/T1CK/CN0/RC14 (io), 76 OC2/SYNCO2/FLT6/RD1 (io), 77 OC3/FLT7/RD2 (io), 78 PWM7H/OC4/FLT8/RD3 (io), 79 QEA2/RD12 (io), 80 PWM7L/CN19/RD13 (io), 81 PWM6L/CN13/RD4 (io), 82 PWM6H/CN14/RD5 (io), 83 PWM5L/CN15/RD6 (io), 84 PWM5H/UPDN1/CN16/RD7 (io), 85 VCAP "CPU logic filter capacitor connection.", 87 C1RX/RF0 (io), 88 C1TX/RF1 (io), 89 QEB2/RG1 (io), 90 INDX2/RG0 (io), 91 AN22/CN22/RA6 (io), 92 AN23/CN23/RA7 (io), 93 PWM1L/RE0 (io), 94 PWM1H/RE1 (io), 95 SYNCO1/FLT23/RG14 (io), 96 PWM9L/RG12 (io), 97 PWM9H/RG13 (io), 98 PWM2L/RE2 (io), 99 PWM2H/RE3 (io), 100 PWM3L/RE4 (io)
part B pins: 2 VDD (power) "Positive supply for peripheral logic and I/O pins.", 15 VSS (power) "Ground reference for logic and I/O pins.", 16 VDD (power) "Positive supply for peripheral logic and I/O pins.", 30 AVDD (power) "Positive supply for analog modules. This pin must be connected at all times.", 31 AVSS (power) "Ground reference for analog modules.", 36 VSS (power) "Ground reference for logic and I/O pins.", 37 VDD (power) "Positive supply for peripheral logic and I/O pins.", 45 VSS (power) "Ground reference for logic and I/O pins.", 46 VDD (power) "Positive supply for peripheral logic and I/O pins.", 62 VDD (power) "Positive supply for peripheral logic and I/O pins.", 65 VSS (power) "Ground reference for logic and I/O pins.", 75 VSS (power) "Ground reference for logic and I/O pins.", 86 VDD (power) "Positive supply for peripheral logic and I/O pins."

## DSPIC33FJ64GS610-I/PF
designator U?
16-Bit Digital Signal Controller with High-Speed PWM, ADC and Comparators, 50 MIPS, 85 I/O, GPIO, -40 to 85 degC, 100-pin TQFP (PF100), Tray; Manufacturer: Microchip; PartNumber: DSPIC33FJ64GS610-I/PF; DatasheetVersion: Rev. E; PackageVersion: C04-110B; PackageReference: TQFP-PF100; PackageDescription: 100-Lead Thin Plastic Quad Flat Pack, 14 x 14 mm Body, 0.5 mm Pitch; Supplier 1: Digi-Key; Supplier Part Number 1: DSPIC33FJ64GS610-I/PF-ND; Supplier 2: Newark; Supplier Part Number 2: 08R1565; Supplier 3: Mouser; Supplier Part Number 3: 579-33FJ64GS610-I/PF; Mounting Technology: Surface Mount; ComponentLink1Description: Manufacturer URL; ComponentLink1URL: http://www.microchip.com; ComponentLink2Description: Datasheet; ComponentLink2URL: http://ww1.microchip.com/downloads/en/DeviceDoc/70591e.pdf; ComponentLink3Description: Package Specification; ComponentLink3URL: http://www.microchip.com/stellent/groups/techpub_sg/documents/packagingspec/en012702.pdf; ComponentLink4Description: Product URL; ComponentLink4URL: http://www.microchip.com/dsPIC33FJ64GS610
footprint MCHP-TQFP-PF100_N (QFP, 100-Leads, Body 14x14mm, Pitch 0.5mm, IPC Medium Density)
footprint MCHP-TQFP-PF100_L (QFP, 100-Leads, Body 14x14mm, Pitch 0.5mm, IPC High Density)
footprint MCHP-TQFP-PF100_M (QFP, 100-Leads, Body 14x14mm, Pitch 0.5mm, IPC Low Density)
part A pins: 1 SYNCI1/RG15 (io), 3 PWM3H/RE5 (io), 4 PWM4L/RE6 (io), 5 PWM4H/RE7 (io), 6 AN16/T2CK/RC1 (io), 7 AN17/T3CK/RC2 (io), 8 AN18/T4CK/RC3 (io), 9 AN19/T5CK/RC4 (io), 10 SCK2/FLT12/CN8/RG6 (io), 11 SDI2/FLT11/CN9/RG7 (io), 12 SDO2/FLT10/CN10/RG8 (io), 13 ~{MCLR} (in) "Master Clear (Reset) input. This pin is an active-low Reset to the device.", 14 ~{SS2}/FLT9/CN11/RG9 (io), 17 TMS/RA0 (io), 18 AN20/FLT13/INT1/RE8 (io), 19 AN21/FLT14/INT2/RE9 (io), 20 AN5/CMP3B/AQEB1/CN7/RB5 (io), 21 AN4/CMP2C/CMP3A/AQEA1/CN6/RB4 (io), 22 AN3/CMP2B/AINDX1/CN5/RB3 (io), 23 AN2/CMP1C/CMP2A/~{ASS1}/CN4/RB2 (io), 24 PGEC3/AN1/CMP1B/CN3/RB1 (io), 25 PGED3/AN0/CMP1A/CMP4C/CN2/RB0 (io), 26 PGEC1/AN6/CMP3C/CMP4A/OCFA/RB6 (io), 27 PGED1/AN7/CMP4B/RB7 (io), 28 PWM8L/RA9 (io), 29 PWM8H/RA10 (io), 32 AN8/RB8 (io), 33 AN9/DACOUT/RB9 (io), 34 AN10/RB10 (io), 35 AN11/EXTREF/RB11 (io), 38 TCK/RA1 (io), 39 ~{U2RTS}/RF13 (io), 40 ~{U2CTS}/RF12 (io), 41 AN12/CMP1D/RB12 (io), 42 AN13/CMP2D/RB13 (io), 43 AN14/CMP3D/~{SS1}/RB14 (io), 44 AN15/CMP4D/CN12/RB15 (io), 47 ~{U1CTS}/FLT15/SYNCI3/CN20/RD14 (io), 48 ~{U1RTS}/FLT16/SYNCI2/CN21/RD15 (io), 49 U2RX/FLT17/CN17/RF4 (io), 50 U2TX/FLT18/CN18/RF5 (io), 51 U1TX/RF3 (io), 52 U1RX/RF2 (io), 53 SDO1/RF8 (io), 54 SDI1/RF7 (io), 55 SCK1/INT0/RF6 (io), 56 SDA1/RG3 (io), 57 SCL1/RG2 (io), 58 SCL2/FLT22/RA2 (io), 59 SDA2/FLT21/RA3 (io), 60 TDI/RA4 (io), 61 TDO/RA5 (io), 63 OSC1/CLKIN/RC12 (io), 64 OSC2/REFCLKO/CLKO/RC15 (io), 66 INT3/FLT20/RA14 (io), 67 INT4/FLT19/SYNCI4/RA15 (io), 68 IC1/FLT1/RD8 (io), 69 IC2/FLT2/RD9 (io), 70 IC3/INDX1/FLT3/RD10 (io), 71 IC4/QEA1/FLT4/RD11 (io), 72 OC1/QEB1/FLT5/RD0 (io), 73 PGED2/SOSCI/CN1/RC13 (io), 74 PGEC2/SOSCO/T1CK/CN0/RC14 (io), 76 OC2/SYNCO2/FLT6/RD1 (io), 77 OC3/FLT7/RD2 (io), 78 PWM7H/OC4/FLT8/RD3 (io), 79 QEA2/RD12 (io), 80 PWM7L/CN19/RD13 (io), 81 PWM6L/CN13/RD4 (io), 82 PWM6H/CN14/RD5 (io), 83 PWM5L/CN15/RD6 (io), 84 PWM5H/UPDN1/CN16/RD7 (io), 85 VCAP "CPU logic filter capacitor connection.", 87 C1RX/RF0 (io), 88 C1TX/RF1 (io), 89 QEB2/RG1 (io), 90 INDX2/RG0 (io), 91 AN22/CN22/RA6 (io), 92 AN23/CN23/RA7 (io), 93 PWM1L/RE0 (io), 94 PWM1H/RE1 (io), 95 SYNCO1/FLT23/RG14 (io), 96 PWM9L/RG12 (io), 97 PWM9H/RG13 (io), 98 PWM2L/RE2 (io), 99 PWM2H/RE3 (io), 100 PWM3L/RE4 (io)
part B pins: 2 VDD (power) "Positive supply for peripheral logic and I/O pins.", 15 VSS (power) "Ground reference for logic and I/O pins.", 16 VDD (power) "Positive supply for peripheral logic and I/O pins.", 30 AVDD (power) "Positive supply for analog modules. This pin must be connected at all times.", 31 AVSS (power) "Ground reference for analog modules.", 36 VSS (power) "Ground reference for logic and I/O pins.", 37 VDD (power) "Positive supply for peripheral logic and I/O pins.", 45 VSS (power) "Ground reference for logic and I/O pins.", 46 VDD (power) "Positive supply for peripheral logic and I/O pins.", 62 VDD (power) "Positive supply for peripheral logic and I/O pins.", 65 VSS (power) "Ground reference for logic and I/O pins.", 75 VSS (power) "Ground reference for logic and I/O pins.", 86 VDD (power) "Positive supply for peripheral logic and I/O pins."

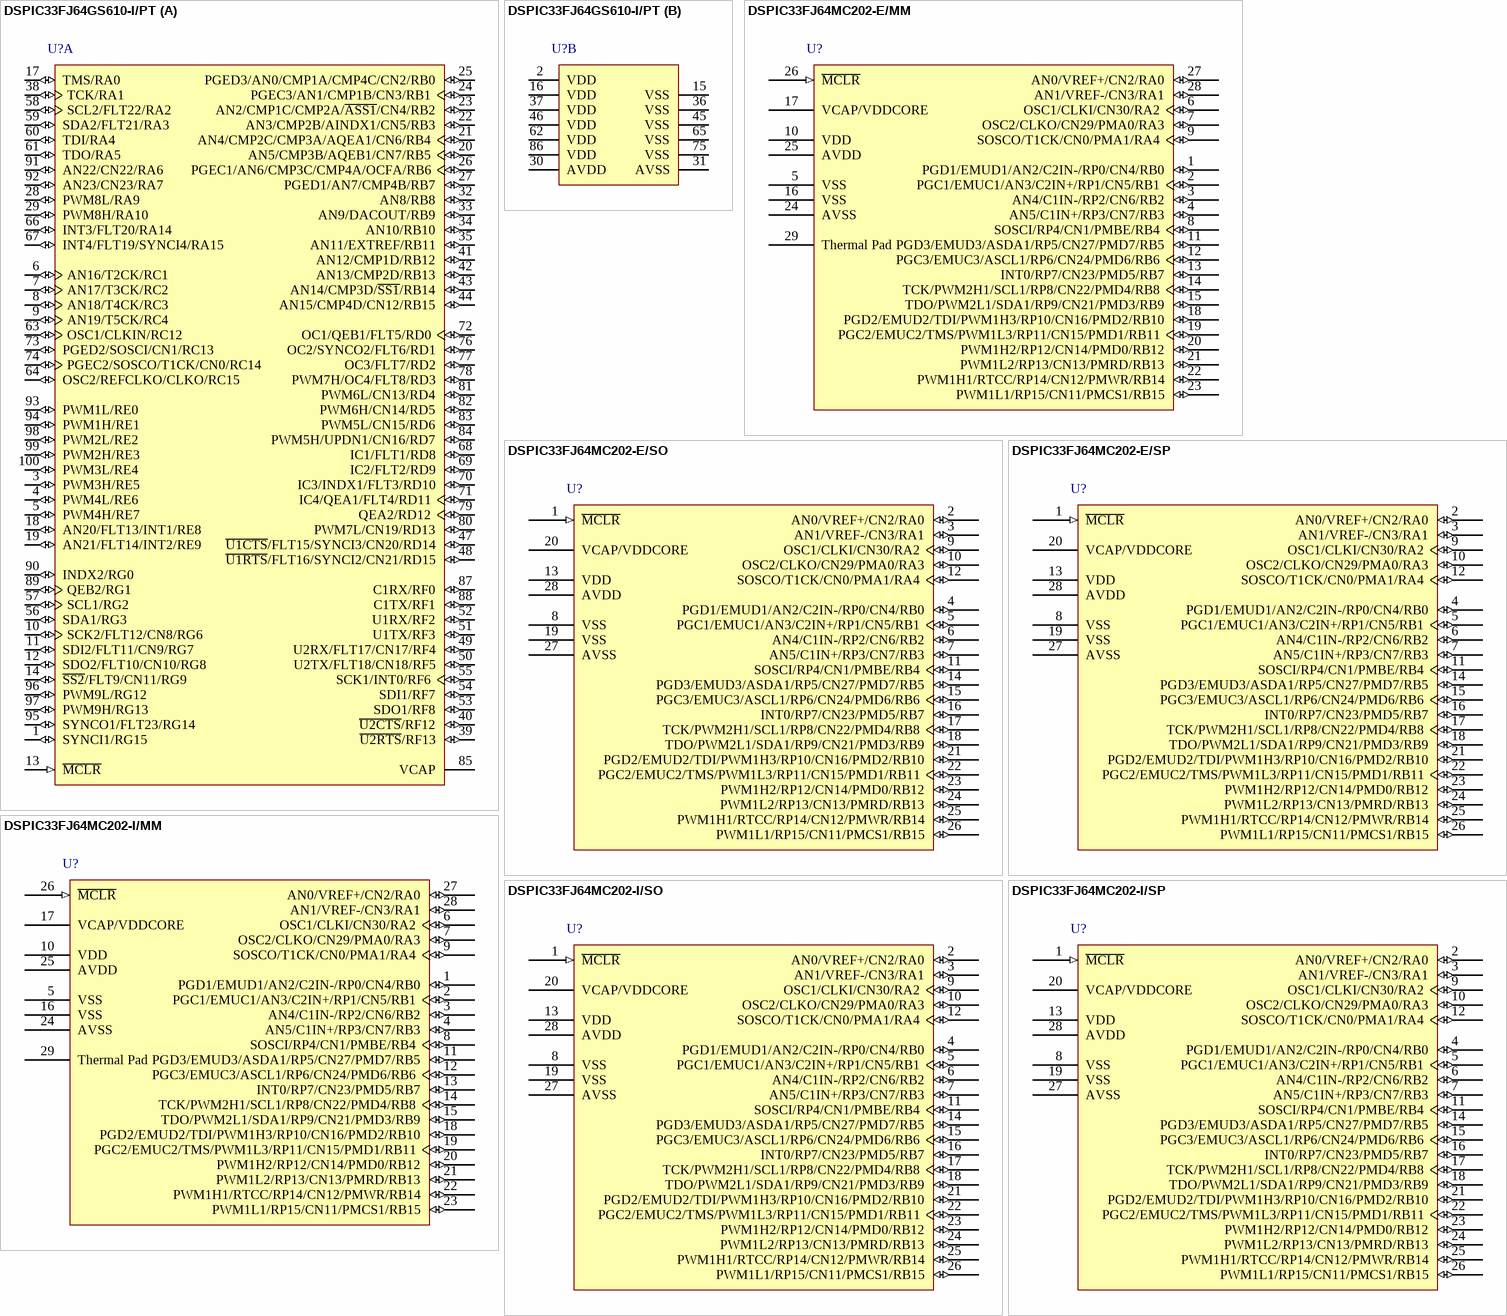
[diagram p76: symbols DSPIC33FJ64GS610-I/PT to DSPIC33FJ64MC202-I/SP]